# Altium schematic symbol library 13-Regulators 调整.SchLib: 234 symbols (part 1 of 2)
Pins are listed as number, name and electrical type; pins without a type are passive.

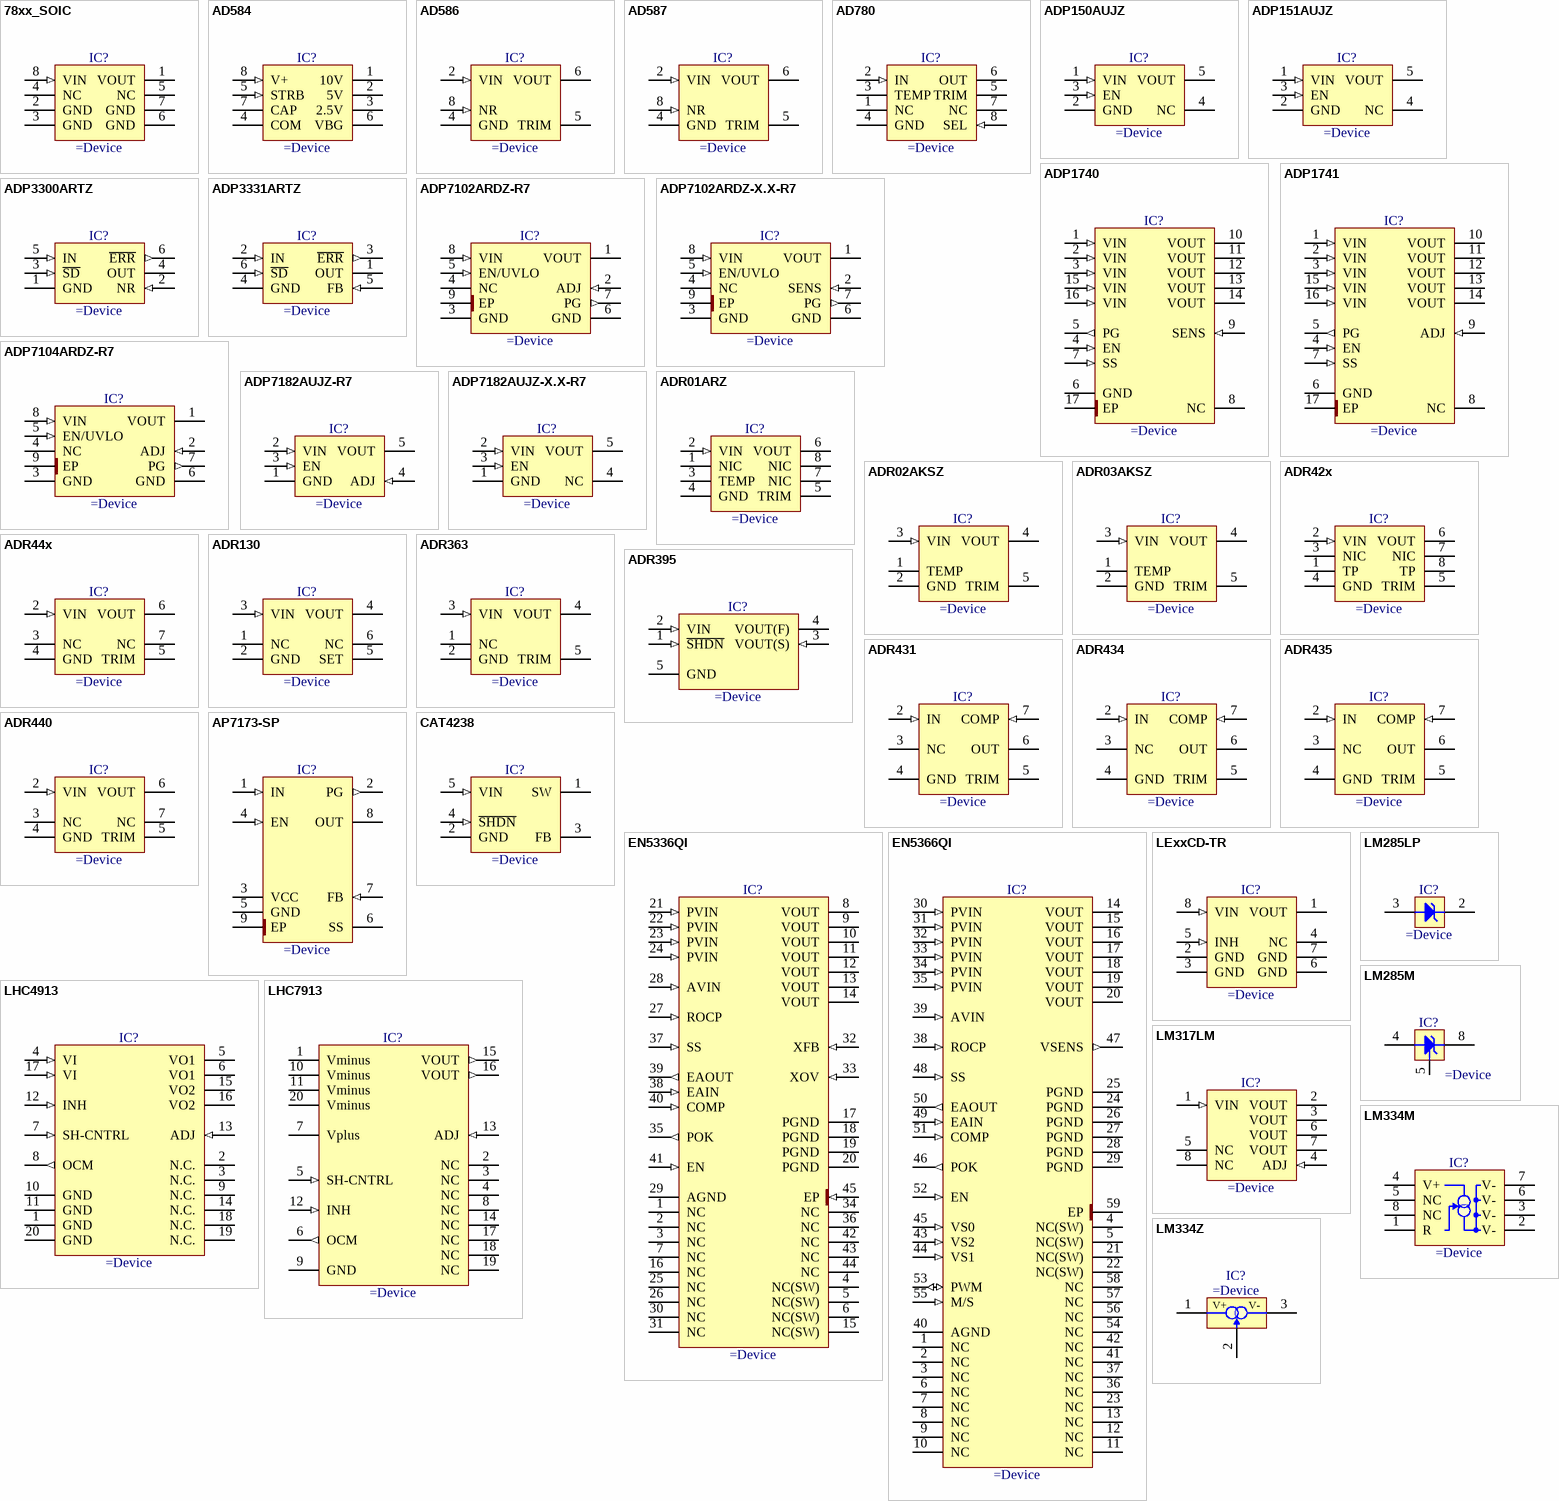
[diagram p0: symbols 78xx_SOIC to LM334Z]

## 78xx_SOIC
designator IC?
100 mA Positive Voltage Regulators
pins: 1 VOUT (power), 2 GND (power), 3 GND (power), 4 NC, 5 NC, 6 GND (power), 7 GND (power), 8 VIN (in)

## AD584
designator IC?
Pin Programmable Precision Voltage Reference
pins: 1 10V (power), 2 5V (power), 3 2.5V (power), 4 COM (power), 5 STRB (in), 6 VBG (power), 7 CAP, 8 V+ (in)

## AD586
designator IC?
High Precision 5V Voltage Reference
pins: 2 VIN (in), 4 GND (power), 5 TRIM, 6 VOUT (power), 8 NR (in)

## AD587
designator IC?
High Precision 10V Voltage Reference
pins: 2 VIN (in), 4 GND (power), 5 TRIM, 6 VOUT (power), 8 NR (in)

## AD780
designator IC?
2.5V/3.0V High Precision Reference
pins: 1 NC, 2 IN (in), 3 TEMP, 4 GND (power), 5 TRIM, 6 OUT (power), 7 NC, 8 SEL (in)

## ADP150AUJZ
designator IC?
Ultralow Noise, 150 mA CMOS Linear Regulator
pins: 1 VIN (in), 2 GND (power), 3 EN (in), 4 NC, 5 VOUT (power)

## ADP151AUJZ
designator IC?
Ultralow Noise, 200 mA CMOS Linear Regulator
pins: 1 VIN (in), 2 GND (power), 3 EN (in), 4 NC, 5 VOUT (power)

## ADP1740
designator IC?
2A, Low-Dropout Linear Regulator
pins: 1 VIN (in), 2 VIN (in), 3 VIN (in), 4 EN (in), 5 PG (out), 6 GND (power), 7 SS (in), 8 NC, 9 SENS (in), 10 VOUT (power), 11 VOUT (power), 12 VOUT (power), 13 VOUT (power), 14 VOUT (power), 15 VIN (in), 16 VIN (in), 17 EP (power)

## ADP1741
designator IC?
2A, 0.75V to 3.0V Adjustable, Low-Dropout Linear Regulator
pins: 1 VIN (in), 2 VIN (in), 3 VIN (in), 4 EN (in), 5 PG (out), 6 GND (power), 7 SS (in), 8 NC, 9 ADJ (in), 10 VOUT (power), 11 VOUT (power), 12 VOUT (power), 13 VOUT (power), 14 VOUT (power), 15 VIN (in), 16 VIN (in), 17 EP (power)

## ADP3300ARTZ
designator IC?
High Accuracy anyCAP® 50 mA Low Dropout Linear Regulator
pins: 1 GND (power), 2 NR (in), 3 ~{SD} (in), 4 OUT (power), 5 IN (in), 6 ~{ERR} (out)

## ADP3331ARTZ
designator IC?
Adjustable Output Ultralow IQ, 200 mA, anyCAP® Low Dropout Regulator
pins: 1 OUT (power), 2 IN (in), 3 ~{ERR} (out), 4 GND (power), 5 FB (in), 6 ~{SD} (in)

## ADP7102ARDZ-R7
designator IC?
1.22V to 19V, 300mA, Low Noise, CMOS LDO Adjustable Linear Regulator
pins: 1 VOUT (power), 2 ADJ (in), 3 GND (power), 4 NC, 5 EN/UVLO (in), 6 GND (power), 7 PG (out), 8 VIN (in), 9 EP (power)

## ADP7102ARDZ-X.X-R7
designator IC?
300 mA, Low Noise, CMOS LDO Linear Regulator
pins: 1 VOUT (power), 2 SENS (in), 3 GND (power), 4 NC, 5 EN/UVLO (in), 6 GND (power), 7 PG (out), 8 VIN (in), 9 EP (power)

## ADP7104ARDZ-R7
designator IC?
20V, 500mA, Low Noise, CMOS LDO Linear Regulator
pins: 1 VOUT (power), 2 ADJ (in), 3 GND (power), 4 NC, 5 EN/UVLO (in), 6 GND (power), 7 PG (out), 8 VIN (in), 9 EP (power)

## ADP7182AUJZ-R7
designator IC?
-1.22V to -27V, -200mA, Adjustable, Low Noise, Negative Linear Regulator
pins: 1 GND (power), 2 VIN (in), 3 EN (in), 4 ADJ (in), 5 VOUT (power)

## ADP7182AUJZ-X.X-R7
designator IC?
–5V, 200 mA, Low Noise, Linear Regulator
pins: 1 GND (power), 2 VIN (in), 3 EN (in), 4 NC, 5 VOUT (power)

## ADR01ARZ
designator IC?
Ultracompact, Precision 10.0V Voltage References
pins: 1 NIC, 2 VIN (in), 3 TEMP, 4 GND (power), 5 TRIM, 6 VOUT (power), 7 NIC, 8 NIC

## ADR02AKSZ
designator IC?
Ultracompact, Precision 5.0V Voltage References
pins: 1 TEMP, 2 GND (power), 3 VIN (in), 4 VOUT (power), 5 TRIM

## ADR03AKSZ
designator IC?
Ultracompact, Precision 2.5V Voltage References
pins: 1 TEMP, 2 GND (power), 3 VIN (in), 4 VOUT (power), 5 TRIM

## ADR42x
designator IC?
Ultraprecision, Low Noise, 2.048 V/2.500 V/  3.00 V/5.00 V XFET Voltage References
pins: 1 TP, 2 VIN (in), 3 NIC, 4 GND (power), 5 TRIM, 6 VOUT (power), 7 NIC, 8 TP

## ADR44x
designator IC?
5V Ultralow Noise, LDO XFET Voltage References with Current Sink and Source
pins: 2 VIN (in), 3 NC, 4 GND (power), 5 TRIM, 6 VOUT (power), 7 NC

## ADR130
designator IC?
±25ppm/°C, Precision Series Sub-Band Gap Voltage Reference
pins: 1 NC, 2 GND (power), 3 VIN (in), 4 VOUT (power), 5 SET, 6 NC

## ADR363
designator IC?
3V, ±25ppm/°C, ±6mV Low Power, Low Noise Voltage References with Sink/Source Capability
pins: 1 NC, 2 GND (power), 3 VIN (in), 4 VOUT (power), 5 TRIM

## ADR395
designator IC?
5V Micropower, Low Noise Precision Voltage References with Shutdown
pins: 1 ~{SHDN} (in), 2 VIN (in), 3 VOUT(S) (in), 4 VOUT(F) (power), 5 GND (power)

## ADR431
designator IC?
2.5V ±0.12% 10ppm/°C Ultralow Noise XFET Voltage References with Current Sink and Source Capability
pins: 2 IN (in), 3 NC, 4 GND (power), 5 TRIM, 6 OUT (power), 7 COMP (in)

## ADR434
designator IC?
4.096V ±0.04% 3ppm/°C 4.096V Ultralow Noise XFET Voltage References with Current Sink and Source Capability
pins: 2 IN (in), 3 NC, 4 GND (power), 5 TRIM, 6 OUT (power), 7 COMP (in)

## ADR435
designator IC?
5V Ultralow Noise XFET Voltage References with Current Sink and Source Capability
pins: 2 IN (in), 3 NC, 4 GND (power), 5 TRIM, 6 OUT (power), 7 COMP (in)

## ADR440
designator IC?
2.048V Ultralow Noise, LDO XFET Voltage Reference with Current Sink and Source
pins: 2 VIN (in), 3 NC, 4 GND (power), 5 TRIM, 6 VOUT (power), 7 NC

## AP7173-SP
designator IC?
1.5A 0.8V to 3.3V Low-Dropout Linear Regulator with Programmable Soft-Start
pins: 1 IN (in), 2 PG (out), 3 VCC (power), 4 EN (in), 5 GND (power), 6 SS, 7 FB (in), 8 OUT (power), 9 EP (power)

## CAT4238
designator IC?
(Up to 5.5V) Input  to (0 to 38V) Output, 600mA, 1MHz DC-DC  Step-Up Converters (Ideal For Driving LEDs)
pins: 1 SW (power), 2 GND (power), 3 FB, 4 ~{SHDN} (in), 5 VIN (in)

## EN5336QI
designator IC?
3A Voltage Mode Synchronous Buck PWM DC-DC Converter with Integrated Inductor External Feedback Output Voltage Programming
pins: 1 NC, 2 NC, 3 NC, 4 NC(SW), 5 NC(SW), 6 NC(SW), 7 NC, 8 VOUT (power), 9 VOUT (power), 10 VOUT (power), 11 VOUT (power), 12 VOUT (power), 13 VOUT (power), 14 VOUT (power), 15 NC(SW), 16 NC, 17 PGND (power), 18 PGND (power), 19 PGND (power), 20 PGND (power), 21 PVIN (in), 22 PVIN (in), 23 PVIN (in), 24 PVIN (in), 25 NC, 26 NC, 27 ROCP (in), 28 AVIN (in), 29 AGND (power), 30 NC, 31 NC, 32 XFB (in), 33 XOV (in), 34 NC, 35 POK (out), 36 NC, 37 SS (in), 38 EAIN (in), 39 EAOUT (out), 40 COMP (in), 41 EN (in), 42 NC, 43 NC, 44 NC, 45 EP (in)

## EN5366QI
designator IC?
6A Voltage Mode Synchronous Buck PWM DC-DC Converter with Integrated Inductor 3-Pin VID Output Voltage Select
pins: 1 NC, 2 NC, 3 NC, 4 NC(SW), 5 NC(SW), 6 NC, 7 NC, 8 NC, 9 NC, 10 NC, 11 NC, 12 NC, 13 NC, 14 VOUT (power), 15 VOUT (power), 16 VOUT (power), 17 VOUT (power), 18 VOUT (power), 19 VOUT (power), 20 VOUT (power), 21 NC(SW), 22 NC(SW), 23 NC, 24 PGND (power), 25 PGND (power), 26 PGND (power), 27 PGND (power), 28 PGND (power), 29 PGND (power), 30 PVIN (in), 31 PVIN (in), 32 PVIN (in), 33 PVIN (in), 34 PVIN (in), 35 PVIN (in), 36 NC, 37 NC, 38 ROCP (in), 39 AVIN (in), 40 AGND (power), 41 NC, 42 NC, 43 VS2 (in), 44 VS1 (in), 45 VS0 (in), 46 POK (out), 47 VSENS (out), 48 SS (in), 49 EAIN (in), 50 EAOUT (out), 51 COMP (in), 52 EN (in), 53 PWM (io), 54 NC, 55 M/S (in), 56 NC, 57 NC, 58 NC, 59 EP (power)

## LExxCD-TR
designator IC?
Very Low Dropout Voltage Regulator with Inhibit Function
pins: 1 VOUT (power), 2 GND (power), 3 GND (power), 4 NC, 5 INH (in), 6 GND (power), 7 GND (power), 8 VIN (in)

## LHC4913
designator IC?
3A Positive Low Drop Adjustable Voltage Regulator With Inhibit Function
pins: 1 GND (power), 2 N.C., 3 N.C., 4 VI (in), 5 VO1 (power), 6 VO1 (power), 7 SH-CNTRL (in), 8 OCM (out), 9 N.C., 10 GND, 11 GND, 12 INH (in), 13 ADJ (in), 14 N.C., 15 VO2 (power), 16 VO2 (power), 17 VI (in), 18 N.C., 19 N.C., 20 GND (power)

## LHC7913
designator IC?
3A Negative Low Drop Adjustable Voltage Regulator With Inhibit Function
pins: 1 Vminus (power), 2 NC, 3 NC, 4 NC, 5 SH-CNTRL (in), 6 OCM (out), 7 Vplus (power), 8 NC, 9 GND (power), 10 Vminus (power), 11 Vminus (power), 12 INH (in), 13 ADJ (in), 14 NC, 15 VOUT (out), 16 VOUT (out), 17 NC, 18 NC, 19 NC, 20 Vminus (power)

## LM285LP
designator IC?
Micropower Voltage References
pins: 2 C, 3 A

## LM285M
designator IC?
1.24V to 5.30V Adjustable Micropower Voltage References
pins: 4 A, 5 Adj (power), 8 C

## LM317LM
designator IC?
1.2V to 37V, 100mA Adjustable Positive Regulator
pins: 1 VIN (in), 2 VOUT (power), 3 VOUT (power), 4 ADJ (in), 5 NC, 6 VOUT (power), 7 VOUT (power), 8 NC

## LM334M
designator IC?
Adjustable Current Sources
pins: 1 R, 2 V-, 3 V-, 4 V+, 5 NC, 6 V-, 7 V-, 8 NC

## LM334Z
designator IC?
Adjustable Current Sources
pins: 1 V+, 2 R, 3 V-

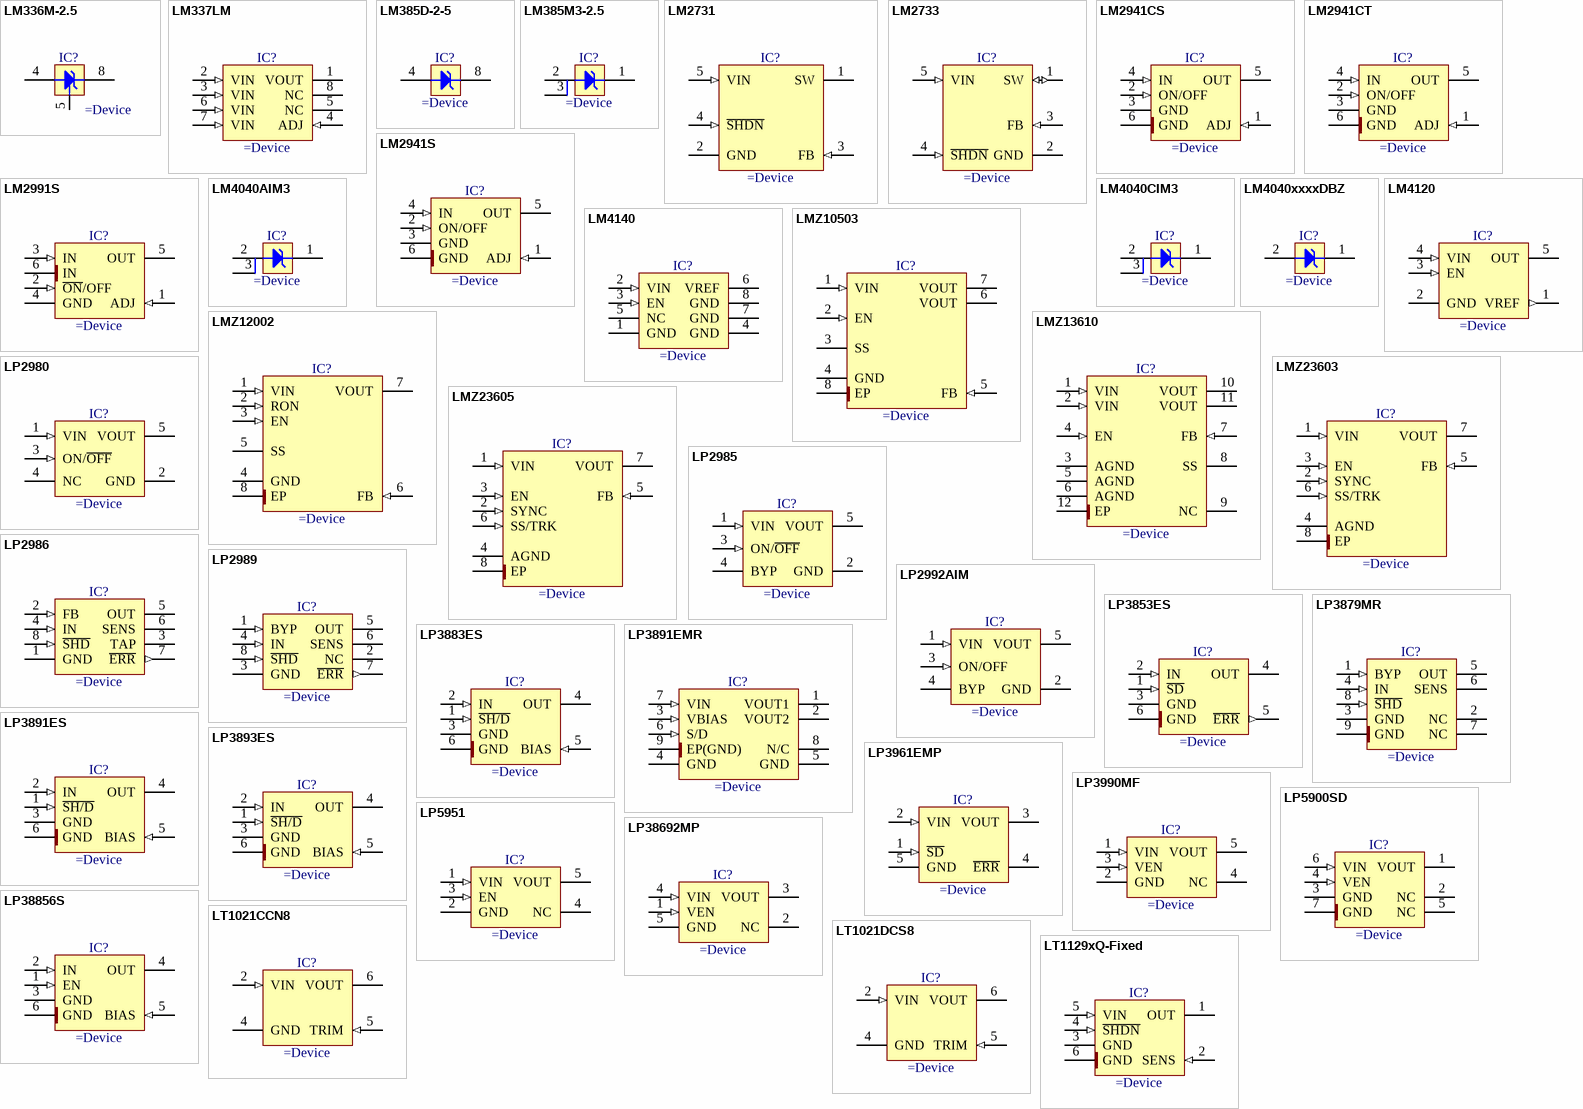
[diagram p1: symbols LM336M-2.5 to LT1129xQ-Fixed]

## LM336M-2.5
designator IC?
Reference Diode
pins: 4 A, 5 Adj, 8 C

## LM337LM
designator IC?
1.2V to 37V, 100mA Adjustable Negative Regulator
pins: 1 VOUT (power), 2 VIN (in), 3 VIN (in), 4 ADJ (in), 5 NC, 6 VIN (in), 7 VIN (in), 8 NC

## LM385D-2-5
designator IC?
Micropower Voltage References
pins: 4 A, 8 C

## LM385M3-2.5
designator IC?
Micropower Voltage Reference Diode
pins: 1 C, 2 A, 3 A

## LM2731
designator IC?
0.0.6MHz Boost Converters With 22V Internal FET Switch
pins: 1 SW (oc), 2 GND (power), 3 FB (in), 4 ~{SHDN} (in), 5 VIN (in)

## LM2733
designator IC?
0.6/1.6 MHz Boost Converters With 40V Internal FET Switch in SOT-23
pins: 1 SW (io) "Drain of the internal FET switch.", 2 GND (power) "Analog and power ground.", 3 FB (in) "Feedback point that connects to external resistive divider.", 4 ~{SHDN} (in) "Shutdown control input. Connect to VIN if this feature is not used.", 5 VIN (in) "Analog and power input."

## LM2941CS
designator IC?
5V to 20V, 1A Low Dropout Adjustable Regulator
pins: 1 ADJ (in), 2 ON/OFF (in), 3 GND (power), 4 IN (in), 5 OUT (power), 6 GND (power)

## LM2941CT
designator IC?
5V to 20V, 1A Low Dropout Adjustable Regulator
pins: 1 ADJ (in), 2 ON/OFF (in), 3 GND (power), 4 IN (in), 5 OUT (power), 6 GND (power)

## LM2941S
designator IC?
5V to 20V, 1A Low Dropout Adjustable Regulator
pins: 1 ADJ (in), 2 ON/OFF (in), 3 GND (power), 4 IN (in), 5 OUT (power), 6 GND (power)

## LM2991S
designator IC?
-3V to -24V, 1A Negative Low Dropout Adjustable Regulator
pins: 1 ADJ (in), 2 ~{ON}/OFF (in), 3 IN (in), 4 GND (power), 5 OUT (power), 6 IN (power)

## LM4040AIM3
designator IC?
Precision Micropower Shunt Voltage Reference
pins: 1 C, 2 A, 3 A

## LM4040CIM3
designator IC?
Precision Micropower Shunt Voltage Reference
pins: 1 C, 2 A, 3 A

## LM4040xxxxDBZ
designator IC?
Precision Micropower Shunt Voltage Reference
pins: 1 C, 2 A

## LM4120
designator IC?
Precision Micropower Low Dropout Voltage Reference
pins: 1 VREF (out), 2 GND (power), 3 EN (in), 4 VIN (in), 5 OUT (power)

## LM4140
designator IC?
High Precision Low Noise Low Dropout Voltage Reference
pins: 1 GND (power), 2 VIN (in), 3 EN (in), 4 GND (power), 5 NC, 6 VREF (power), 7 GND (power), 8 GND (power)

## LMZ10503
designator IC?
3A SIMPLE SWITCHER® Power Module with 5.5V Maximum Input Voltage
pins: 1 VIN (in), 2 EN (in), 3 SS, 4 GND (power), 5 FB (in), 6 VOUT (power), 7 VOUT (power), 8 EP (power)

## LMZ12002
designator IC?
2A SIMPLE SWITCHER® Power Module with 20V Maximum Input Voltage
pins: 1 VIN (in), 2 RON (in), 3 EN (in), 4 GND (power), 5 SS, 6 FB (in), 7 VOUT (power), 8 EP (power)

## LMZ13610
designator IC?
10A SIMPLE SWITCHER® Power Module with 36V Maximum Input Voltage
pins: 1 VIN (in), 2 VIN (in), 3 AGND (power), 4 EN (in), 5 AGND (power), 6 AGND (power), 7 FB (in), 8 SS, 9 NC, 10 VOUT (power), 11 VOUT (power), 12 EP (power)

## LMZ23603
designator IC?
3A SIMPLE SWITCHER® Power Module with 37V Maximum Input Voltage
pins: 1 VIN (in), 2 SYNC (in), 3 EN (in), 4 AGND (power), 5 FB (in), 6 SS/TRK (in), 7 VOUT (power), 8 EP (power)

## LMZ23605
designator IC?
5A SIMPLE SWITCHER® Power Module with 37V Maximum Input Voltage
pins: 1 VIN (in), 2 SYNC (in), 3 EN (in), 4 AGND (power), 5 FB (in), 6 SS/TRK (in), 7 VOUT (power), 8 EP (power)

## LP2980
designator IC?
Micropower 50mA Ultra Low-Dropout Regulator
pins: 1 VIN (in), 2 GND (power), 3 ON/~{OFF} (in), 4 NC, 5 VOUT (power)

## LP2985
designator IC?
150mA Low-Noise Low-Dropout Regulator Whit Shutdown
pins: 1 VIN (in), 2 GND (power), 3 ON/~{OFF} (in), 4 BYP, 5 VOUT (power)

## LP2986
designator IC?
Micropower, 200 mA Ultra Low-Dropout Fixed or Adjustable Voltage Regulator
pins: 1 GND (power), 2 FB (in), 3 TAP, 4 IN (in), 5 OUT (power), 6 SENS, 7 ~{ERR} (out), 8 ~{SHD} (in)

## LP2989
designator IC?
Micropower/Low Noise, 500 mA Ultra Low-Dropout Regulator
pins: 1 BYP (in), 2 NC, 3 GND (power), 4 IN (in), 5 OUT (power), 6 SENS, 7 ~{ERR} (out), 8 ~{SHD} (in)

## LP2992AIM
designator IC?
Micropower 250 mA Low-Noise Ultra Low-Dropout Regulator in SOT-23
pins: 1 VIN (in), 2 GND (power), 3 ON/OFF (in), 4 BYP, 5 VOUT (power)

## LP3853ES
designator IC?
3A Fast-Response Ultra Low Dropout Linear Regulators
pins: 1 ~{SD} (in), 2 IN (in), 3 GND (power), 4 OUT (power), 5 ~{ERR} (out), 6 GND (power)

## LP3879MR
designator IC?
Micropower 800mA Low Noise "Ceramic Stable" Voltage Regulator for Low Voltage Applications
pins: 1 BYP (in), 2 NC, 3 GND (power), 4 IN (in), 5 OUT (power), 6 SENS, 7 NC, 8 ~{SHD} (in), 9 GND (power)

## LP3883ES
designator IC?
3A Fast-Response Ultra Low Dropout Linear Regulators
pins: 1 ~{SH/D} (in), 2 IN (in), 3 GND (power), 4 OUT (power), 5 BIAS (in), 6 GND (power)

## LP3891EMR
designator IC?
0.8A Fast-Response Ultra Low Dropout Linear Regulator
pins: 1 VOUT1 (power), 2 VOUT2 (power), 3 VBIAS (in), 4 GND (power), 5 GND (power), 6 S/D (in), 7 VIN (in), 8 N/C, 9 EP(GND) (power)

## LP3891ES
designator IC?
0.8A Fast-Response Ultra Low Dropout Linear Regulator
pins: 1 ~{SH/D} (in), 2 IN (in), 3 GND (power), 4 OUT (power), 5 BIAS (in), 6 GND (power)

## LP3893ES
designator IC?
3A Fast-Response Ultra Low Dropout Linear Regulators
pins: 1 ~{SH/D} (in), 2 IN (in), 3 GND (power), 4 OUT (power), 5 BIAS (in), 6 GND (power)

## LP3961EMP
designator IC?
800mA Fast Ultra Low Dropout Linear Regulators
pins: 1 ~{SD} (in), 2 VIN (in), 3 VOUT (power), 4 ~{ERR}, 5 GND (power)

## LP3990MF
designator IC?
1.8V, 150mA Linear Voltage Regulator For Digital Applications
pins: 1 VIN (in), 2 GND (power), 3 VEN (in), 4 NC, 5 VOUT (power)

## LP5900SD
designator IC?
Ultra Low Noise, 150 mA Linear Regulator for RF/Analog Circuits Requires No Bypass Capacitor
pins: 1 VOUT (power), 2 NC, 3 GND (power), 4 VEN (in), 5 NC, 6 VIN (in), 7 GND (power)

## LP5951
designator IC?
150mA Micropower Low-Dropout CMOS Voltage Regulator
pins: 1 VIN (in), 2 GND (power), 3 EN (in), 4 NC, 5 VOUT (power)

## LP38692MP
designator IC?
1A Low Dropout CMOS Linear Regulators Stable with Ceramic Output Capacitors
pins: 1 VEN (in), 2 NC, 3 VOUT (power), 4 VIN (in), 5 GND (power)

## LP38856S
designator IC?
3A Fast-Response High-Accuracy LDO Linear Regulator With Enable From The PowerWise® Family
pins: 1 EN (in), 2 IN (in), 3 GND (power), 4 OUT (power), 5 BIAS (in), 6 GND (power)

## LT1021CCN8
designator IC?
3ppm/°C, 5V Precision Reference
pins: 2 VIN (in), 4 GND (power), 5 TRIM (in), 6 VOUT (power)

## LT1021DCS8
designator IC?
3ppm/°C, 5V Precision Reference
pins: 2 VIN (in), 4 GND (power), 5 TRIM (in), 6 VOUT (power)

## LT1129xQ-Fixed
designator IC?
3.3V, 700mA Micropower Low Dropout Regulator with Shutdown
pins: 1 OUT (power), 2 SENS (in), 3 GND (power), 4 ~{SHDN} (in), 5 VIN (in), 6 GND (power)

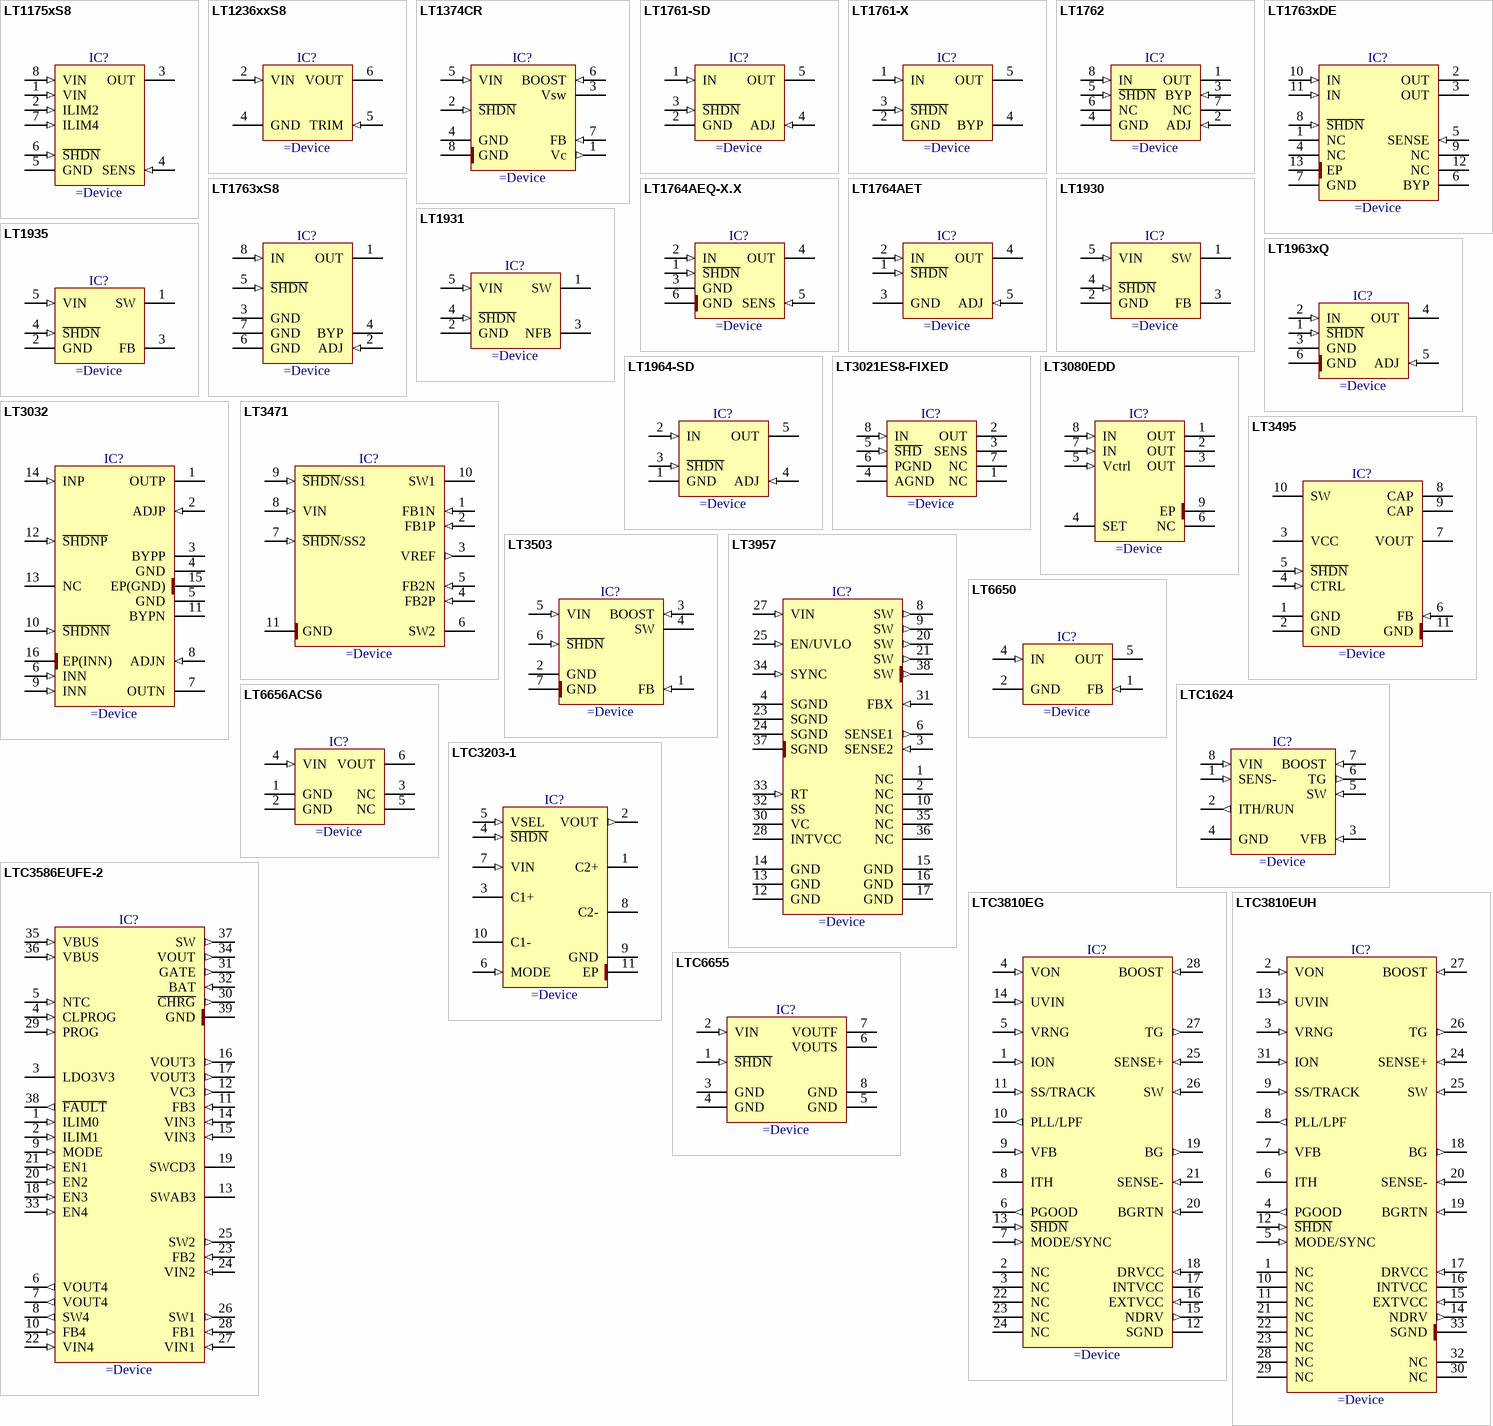
[diagram p2: symbols LT1175xS8 to LTC6655]

## LT1175xS8
designator IC?
5V 500mA Negative Low Dropout Micropower Regulator
pins: 1 VIN (in), 2 ILIM2 (in), 3 OUT (power), 4 SENS (in), 5 GND (power), 6 ~{SHDN} (in), 7 ILIM4 (in), 8 VIN (in)

## LT1236xxS8
designator IC?
5ppm/°C, Precision Reference
pins: 2 VIN (in), 4 GND (power), 5 TRIM (in), 6 VOUT (power)

## LT1374CR
designator IC?
4.5A 500kHz Step-Down Switching Regulator
pins: 1 Vc (out), 2 ~{SHDN} (in), 3 Vsw (power), 4 GND (power), 5 VIN (in), 6 BOOST (in), 7 FB (in), 8 GND (power)

## LT1761-SD
designator IC?
100mA, Low Noise, LDO Micropower Adjustable Regulator in SOT-23
pins: 1 IN (in), 2 GND (power), 3 ~{SHDN} (in), 4 ADJ (in), 5 OUT (power)

## LT1761-X
designator IC?
100mA, Low Noise, LDO Micropower Regulator in SOT-23
pins: 1 IN (in), 2 GND (power), 3 ~{SHDN} (in), 4 BYP, 5 OUT (power)

## LT1762
designator IC?
150mA, Low Noise, Adjustable LDO Micropower Regulator
pins: 1 OUT (power), 2 ADJ (in), 3 BYP (in), 4 GND (power), 5 ~{SHDN} (in), 6 NC, 7 NC, 8 IN (in)

## LT1763xDE
designator IC?
1.22V to 20V 500mA, Low Noise, LDO Adjustable Micropower Regulator
pins: 1 NC, 2 OUT (power), 3 OUT (power), 4 NC, 5 SENSE (in), 6 BYP, 7 GND (power), 8 ~{SHDN} (in), 9 NC, 10 IN (in), 11 IN (in), 12 NC, 13 EP (power)

## LT1763xS8
designator IC?
1.22V to 20V 500mA, Low Noise, LDO Adjustable Micropower Regulator
pins: 1 OUT (power), 2 ADJ (in), 3 GND (power), 4 BYP, 5 ~{SHDN} (in), 6 GND (power), 7 GND (power), 8 IN (in)

## LT1764AEQ-X.X
designator IC?
3A, Fast Transient Response, Low Noise, LDO Regulators
pins: 1 ~{SHDN} (in), 2 IN (in), 3 GND (power), 4 OUT (power), 5 SENS (in), 6 GND (power)

## LT1764AET
designator IC?
3A, Fast Transient Response, Low Noise, LDO Regulator
pins: 1 ~{SHDN} (in), 2 IN (in), 3 GND (power), 4 OUT (power), 5 ADJ (in)

## LT1930
designator IC?
1.2MHz/2.2MHz Step-Up DC/DC Converters in ThinSOT
pins: 1 SW (power), 2 GND (power), 3 FB, 4 ~{SHDN} (in), 5 VIN (in)

## LT1931
designator IC?
1.2MHz/2.2MHz Inverting DC/DC Converters in ThinSOT
pins: 1 SW (power), 2 GND (power), 3 NFB, 4 ~{SHDN} (in), 5 VIN (in)

## LT1935
designator IC?
1.2MHz Boost DC/DC Converter in ThinSOT with 2A Switch
pins: 1 SW (power), 2 GND (power), 3 FB, 4 ~{SHDN} (in), 5 VIN (in)

## LT1963xQ
designator IC?
1.5A, Fast Transient Response Adjustable LDO Regulators
pins: 1 ~{SHDN} (in), 2 IN (in), 3 GND (power), 4 OUT (power), 5 ADJ (in), 6 GND (power)

## LT1964-SD
designator IC?
200mA, Low Noise, Low Dropout Negative Micropower Regulator
pins: 1 GND (power), 2 IN (in), 3 ~{SHDN} (in), 4 ADJ (in), 5 OUT (power)

## LT3021ES8-FIXED
designator IC?
500mA, Low Voltage, Very Low Dropout Linear Regulator
pins: 1 NC, 2 OUT (power), 3 SENS, 4 AGND (power), 5 ~{SHD} (in), 6 PGND (power), 7 NC, 8 IN (in)

## LT3032
designator IC?
Dual 150mA Positive/Negative Low Noise Low Dropout Linear Regulator
pins: 1 OUTP (power), 2 ADJP (in), 3 BYPP, 4 GND (power), 5 GND (power), 6 INN (in), 7 OUTN (power), 8 ADJN (in), 9 INN (in), 10 ~{SHDNN} (in), 11 BYPN, 12 ~{SHDNP} (in), 13 NC, 14 INP (in), 15 EP(GND) (power), 16 EP(INN) (power)

## LT3080EDD
designator IC?
Adjustable 1.1A Single Resistor Low Dropout Regulator
pins: 1 OUT (power), 2 OUT (power), 3 OUT (power), 4 SET, 5 Vctrl (in), 6 NC, 7 IN (in), 8 IN (in), 9 EP (power)

## LT3471
designator IC?
1.3A, 1.2MHz , Dual Switching Regulator
pins: 1 FB1N (in), 2 FB1P (in), 3 VREF (out), 4 FB2P (in), 5 FB2N (in), 6 SW2 (oc), 7 ~{SHDN}/SS2 (in), 8 VIN (in), 9 ~{SHDN}/SS1 (in), 10 SW1 (oc), 11 GND (power)

## LT3495
designator IC?
Micropower Low Noise Boost Converter with Output Disconnect
pins: 1 GND (power), 2 GND (power), 3 VCC (power), 4 CTRL (in), 5 ~{SHDN} (in), 6 FB (in), 7 VOUT (power), 8 CAP, 9 CAP, 10 SW (oc), 11 GND (power)

## LT3503
designator IC?
1A, 2.2MHz Step-Down Switching Regulator
pins: 1 FB (in), 2 GND (power), 3 BOOST (in), 4 SW (power), 5 VIN (in), 6 ~{SHDN} (in), 7 GND (power)

## LT3957
designator IC?
Boost, Flyback, SEPIC and Inverting Converter with 5A, 40V Switch
pins: 1 NC, 2 NC, 3 SENSE2 (in), 4 SGND (power), 6 SENSE1 (out), 8 SW (out), 9 SW (out), 10 NC, 12 GND (power), 13 GND (power), 14 GND (power), 15 GND (power), 16 GND (power), 17 GND (power), 20 SW (out), 21 SW (out), 23 SGND (power), 24 SGND (power), 25 EN/UVLO (in), 27 VIN (in), 28 INTVCC, 30 VC, 31 FBX (in), 32 SS, 33 RT (in), 34 SYNC (in), 35 NC, 36 NC, 37 SGND (power), 38 SW (out)

## LT6650
designator IC?
Micropower, 400mV Reference with Rail-to-Rail Buffer Amplifier
pins: 1 FB (in), 2 GND (power), 4 IN (in), 5 OUT (power)

## LT6656ACS6
designator IC?
1uA Precision Voltage Reference
pins: 1 GND (power), 2 GND (power), 3 NC, 4 VIN (in), 5 NC, 6 VOUT (power)

## LTC1624
designator IC?
High Efficiency SO-8 N-Channel Switching Regulator Controller
pins: 1 SENS- (in), 2 ITH/RUN (out), 3 VFB (in), 4 GND (power), 5 SW (in), 6 TG (out), 7 BOOST (in), 8 VIN (in)

## LTC3203-1
designator IC?
500mA Output Current Low Noise Dual Mode Step-Up Charge Pumps
pins: 1 C2+, 2 VOUT (out), 3 C1+, 4 ~{SHDN} (in), 5 VSEL (in), 6 MODE (in), 7 VIN (in), 8 C2-, 9 GND (power), 10 C1-, 11 EP (power)

## LTC3586EUFE-2
designator IC?
High Efficiency USB Power Manager with Boost, Buck-Boost and Dual Bucks
pins: 1 ILIM0 (in), 2 ILIM1 (in), 3 LDO3V3 (power), 4 CLPROG (in), 5 NTC (in), 6 VOUT4 (out), 7 VOUT4 (out), 8 SW4 (out), 9 MODE (in), 10 FB4 (in), 11 FB3 (in), 12 VC3 (out), 13 SWAB3, 14 VIN3 (in), 15 VIN3 (in), 16 VOUT3 (out), 17 VOUT3 (out), 18 EN3 (in), 19 SWCD3, 20 EN2 (in), 21 EN1 (in), 22 VIN4 (in), 23 FB2 (in), 24 VIN2 (in), 25 SW2 (out), 26 SW1 (out), 27 VIN1 (in), 28 FB1 (in), 29 PROG (in), 30 ~{CHRG} (out), 31 GATE (out), 32 BAT (in), 33 EN4 (in), 34 VOUT (out), 35 VBUS (in), 36 VBUS (in), 37 SW (out), 38 ~{FAULT} (out), 39 GND (power)

## LTC3810EG
designator IC?
Current Mode Synchronous Switching Regulator Controller
pins: 1 ION (in), 2 NC, 3 NC, 4 VON (in), 5 VRNG (in), 6 PGOOD (out), 7 MODE/SYNC (in), 8 ITH, 9 VFB (in), 10 PLL/LPF (out), 11 SS/TRACK (in), 12 SGND (power), 13 ~{SHDN} (in), 14 UVIN (in), 15 NDRV (out), 16 EXTVCC (in), 17 INTVCC (power), 18 DRVCC (in), 19 BG (out), 20 BGRTN (in), 21 SENSE- (in), 22 NC, 23 NC, 24 NC, 25 SENSE+ (in), 26 SW (in), 27 TG (out), 28 BOOST (in)

## LTC3810EUH
designator IC?
Current Mode Synchronous Switching Regulator Controller
pins: 1 NC, 2 VON (in), 3 VRNG (in), 4 PGOOD (out), 5 MODE/SYNC (in), 6 ITH, 7 VFB (in), 8 PLL/LPF (out), 9 SS/TRACK (in), 10 NC, 11 NC, 12 ~{SHDN} (in), 13 UVIN (in), 14 NDRV (out), 15 EXTVCC (in), 16 INTVCC (power), 17 DRVCC (in), 18 BG (out), 19 BGRTN (in), 20 SENSE- (in), 21 NC, 22 NC, 23 NC, 24 SENSE+ (in), 25 SW (in), 26 TG (out), 27 BOOST (in), 28 NC, 29 NC, 30 NC, 31 ION (in), 32 NC, 33 SGND (power)

## LTC6655
designator IC?
0.25ppm Noise, Low Drift Precision Buffered Voltage Reference
pins: 1 ~{SHDN} (in), 2 VIN (in), 3 GND (power), 4 GND (power), 5 GND (power), 6 VOUTS (power), 7 VOUTF (power), 8 GND (power)

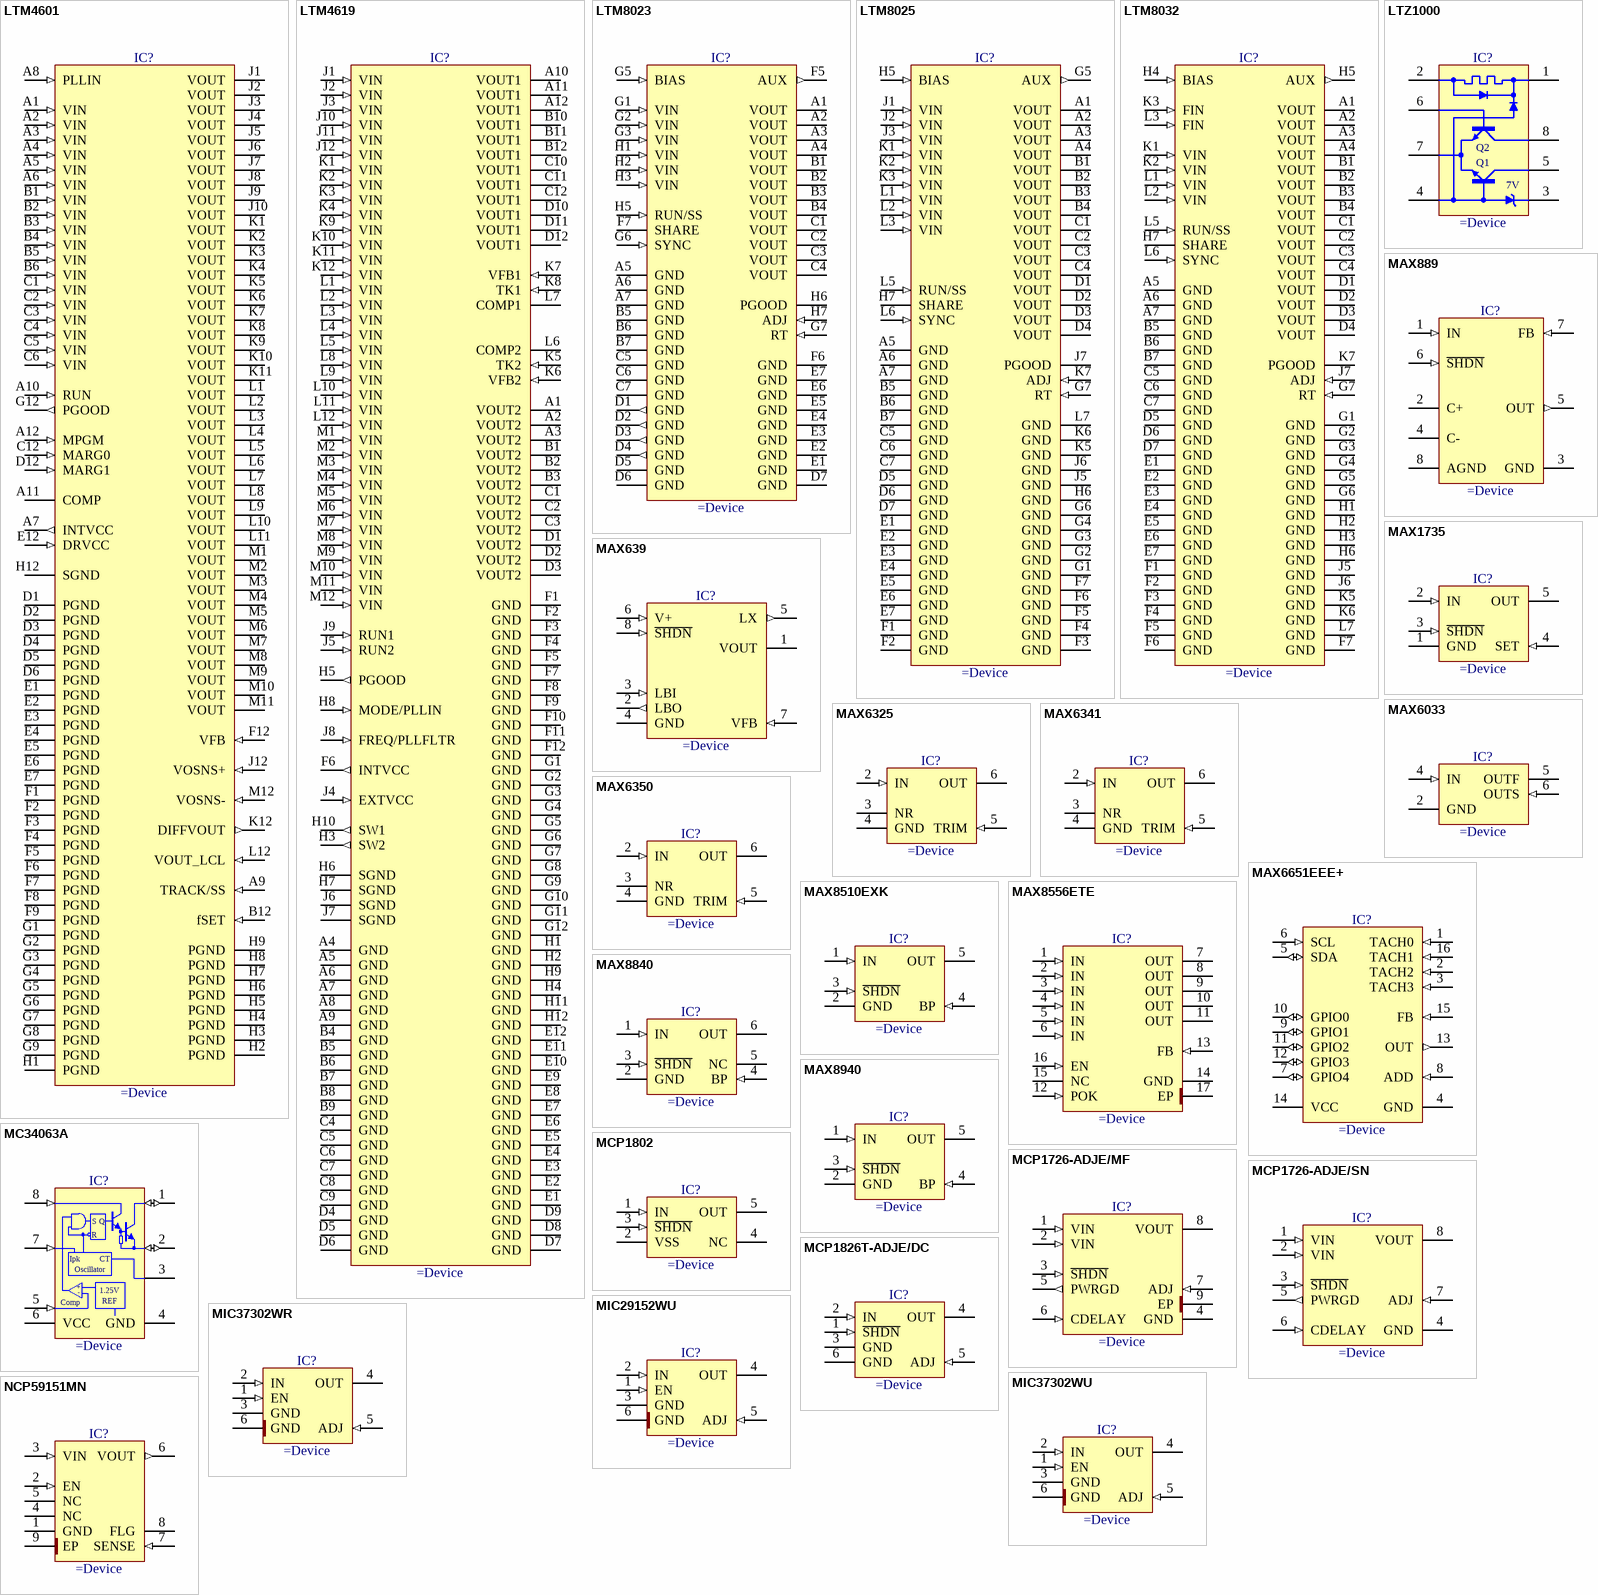
[diagram p3: symbols LTM4601 to NCP59151MN]

## LTM4601
designator IC?
4.5V-20V To 0.6V-5V, Iout 12A DC/DC uModule With PLL, Output Tracking And Margining
pins: A1 VIN (in), A2 VIN (in), A3 VIN (in), A4 VIN (in), A5 VIN (in), A6 VIN (in), A7 INTVCC (out), A8 PLLIN (in), A9 TRACK/SS (in), A10 RUN (in), A11 COMP, A12 MPGM (in), B1 VIN (in), B2 VIN (in), B3 VIN (in), B4 VIN (in), B5 VIN (in), B6 VIN (in), B12 fSET (in), C1 VIN (in), C2 VIN (in), C3 VIN (in), C4 VIN (in), C5 VIN (in), C6 VIN (in), C12 MARG0 (in), D1 PGND (power), D2 PGND (power), D3 PGND (power), D4 PGND (power), D5 PGND (power), D6 PGND (power), D12 MARG1 (in), E1 PGND (power), E2 PGND (power), E3 PGND (power), E4 PGND (power), E5 PGND (power), E6 PGND (power), E7 PGND (power), E12 DRVCC (in), F1 PGND (power), F2 PGND (power), F3 PGND (power), F4 PGND (power), F5 PGND (power), F6 PGND (power), F7 PGND (power), F8 PGND (power), F9 PGND (power), F12 VFB (in), G1 PGND (power), G2 PGND (power), G3 PGND (power), G4 PGND (power), G5 PGND (power), G6 PGND (power), G7 PGND (power), G8 PGND (power), G9 PGND (power), G12 PGOOD (out), H1 PGND (power), H2 PGND (power), H3 PGND (power), H4 PGND (power), H5 PGND (power), H6 PGND (power), H7 PGND (power), H8 PGND (power), H9 PGND (power), H12 SGND (power), J1 VOUT (power), J2 VOUT (power), J3 VOUT (power), J4 VOUT (power), J5 VOUT (power), J6 VOUT (power), J7 VOUT (power), J8 VOUT (power), J9 VOUT (power), J10 VOUT (power), J12 VOSNS+ (in), K1 VOUT (power), K2 VOUT (power), K3 VOUT (power), K4 VOUT (power), K5 VOUT (power), K6 VOUT (power), K7 VOUT (power), K8 VOUT (power), K9 VOUT (power), K10 VOUT (power), K11 VOUT (power), K12 DIFFVOUT (out), L1 VOUT (power), L2 VOUT (power), L3 VOUT (power), L4 VOUT (power), L5 VOUT (power), L6 VOUT (power), L7 VOUT (power), L8 VOUT (power), L9 VOUT (power), L10 VOUT (power), L11 VOUT (power), L12 VOUT_LCL (in), M1 VOUT (power), M2 VOUT (power), M3 VOUT (power), M4 VOUT (power), M5 VOUT (power), M6 VOUT (power), M7 VOUT (power), M8 VOUT (power), M9 VOUT (power), M10 VOUT (power), M11 VOUT (power), M12 VOSNS- (in)

## LTM4619
designator IC?
4.5V-26.5V To 0.8V-5V, Iout 4A Dual DC/DC uModule Regulator
pins: A1 VOUT2 (power), A2 VOUT2 (power), A3 VOUT2 (power), A4 GND (power), A5 GND (power), A6 GND (power), A7 GND (power), A8 GND (power), A9 GND (power), A10 VOUT1 (power), A11 VOUT1 (power), A12 VOUT1 (power), B1 VOUT2 (power), B2 VOUT2 (power), B3 VOUT2 (power), B4 GND (power), B5 GND (power), B6 GND (power), B7 GND (power), B8 GND (power), B9 GND (power), B10 VOUT1 (power), B11 VOUT1 (power), B12 VOUT1 (power), C1 VOUT2 (power), C2 VOUT2 (power), C3 VOUT2 (power), C4 GND (power), C5 GND (power), C6 GND (power), C7 GND (power), C8 GND (power), C9 GND (power), C10 VOUT1 (power), C11 VOUT1 (power), C12 VOUT1 (power), D1 VOUT2 (power), D2 VOUT2 (power), D3 VOUT2 (power), D4 GND (power), D5 GND (power), D6 GND (power), D7 GND (power), D8 GND (power), D9 GND (power), D10 VOUT1 (power), D11 VOUT1 (power), D12 VOUT1 (power), E1 GND (power), E2 GND (power), E3 GND (power), E4 GND (power), E5 GND (power), E6 GND (power), E7 GND (power), E8 GND (power), E9 GND (power), E10 GND (power), E11 GND (power), E12 GND (power), F1 GND (power), F2 GND (power), F3 GND (power), F4 GND (power), F5 GND (power), F6 INTVCC (out), F7 GND (power), F8 GND (power), F9 GND (power), F10 GND (power), F11 GND (power), F12 GND (power), G1 GND (power), G2 GND (power), G3 GND (power), G4 GND (power), G5 GND (power), G6 GND (power), G7 GND (power), G8 GND (power), G9 GND (power), G10 GND (power), G11 GND (power), G12 GND (power), H1 GND (power), H2 GND (power), H3 SW2 (out), H4 GND (power), H5 PGOOD (out), H6 SGND (power), H7 SGND (power), H8 MODE/PLLIN (in), H9 GND (power), H10 SW1 (out), H11 GND (power), H12 GND (power), J1 VIN (in), J2 VIN (in), J3 VIN (in), J4 EXTVCC (in), J5 RUN2 (in), J6 SGND (power), J7 SGND (power), J8 FREQ/PLLFLTR (in), J9 RUN1 (in), J10 VIN (in), J11 VIN (in), J12 VIN (in), K1 VIN (in), K2 VIN (in), K3 VIN (in), K4 VIN (in), K5 TK2 (in), K6 VFB2 (in), K7 VFB1 (in), K8 TK1 (in), K9 VIN (in), K10 VIN (in), K11 VIN (in), K12 VIN (in), L1 VIN (in), L2 VIN (in), L3 VIN (in), L4 VIN (in), L5 VIN (in), L6 COMP2, L7 COMP1, L8 VIN (in), L9 VIN (in), L10 VIN (in), L11 VIN (in), L12 VIN (in), M1 VIN (in), M2 VIN (in), M3 VIN (in), M4 VIN (in), M5 VIN (in), M6 VIN (in), M7 VIN (in), M8 VIN (in), M9 VIN (in), M10 VIN (in), M11 VIN (in), M12 VIN (in)

## LTM8023
designator IC?
3.6V-36V To 0.8V-10V, Iout 2A DC/DC uModule
pins: A1 VOUT (power), A2 VOUT (power), A3 VOUT (power), A4 VOUT (power), A5 GND (power), A6 GND (power), A7 GND (power), B1 VOUT (power), B2 VOUT (power), B3 VOUT (power), B4 VOUT (power), B5 GND (power), B6 GND (power), B7 GND (power), C1 VOUT (power), C2 VOUT (power), C3 VOUT (power), C4 VOUT (power), C5 GND (power), C6 GND (power), C7 GND (power), D1 GND (out), D2 GND (out), D3 GND (out), D4 GND (out), D5 GND (power), D6 GND (power), D7 GND (power), E1 GND (power), E2 GND (power), E3 GND (power), E4 GND (power), E5 GND (power), E6 GND (power), E7 GND (power), F5 AUX (out), F6 GND (power), F7 SHARE, G1 VIN (in), G2 VIN (in), G3 VIN (in), G5 BIAS (in), G6 SYNC (in), G7 RT (in), H1 VIN (in), H2 VIN (in), H3 VIN (in), H5 RUN/SS (in), H6 PGOOD (oc), H7 ADJ (in)

## LTM8025
designator IC?
3.6V-36V To 0.8V-24V, Iout 3A Step Down uModule® Converter
pins: A1 VOUT (power), A2 VOUT (power), A3 VOUT (power), A4 VOUT (power), A5 GND (power), A6 GND (power), A7 GND (power), B1 VOUT (power), B2 VOUT (power), B3 VOUT (power), B4 VOUT (power), B5 GND (power), B6 GND (power), B7 GND (power), C1 VOUT (power), C2 VOUT (power), C3 VOUT (power), C4 VOUT (power), C5 GND (power), C6 GND (power), C7 GND (power), D1 VOUT (power), D2 VOUT (power), D3 VOUT (power), D4 VOUT (power), D5 GND (power), D6 GND (power), D7 GND (power), E1 GND (power), E2 GND (power), E3 GND (power), E4 GND (power), E5 GND (power), E6 GND (power), E7 GND (power), F1 GND (power), F2 GND (power), F3 GND (power), F4 GND (power), F5 GND (power), F6 GND (power), F7 GND (power), G1 GND (power), G2 GND (power), G3 GND (power), G4 GND (power), G5 AUX (out), G6 GND (power), G7 RT (in), H5 BIAS (in), H6 GND (power), H7 SHARE, J1 VIN (in), J2 VIN (in), J3 VIN (in), J5 GND (power), J6 GND (power), J7 PGOOD (oc), K1 VIN (in), K2 VIN (in), K3 VIN (in), K5 GND (power), K6 GND (power), K7 ADJ (in), L1 VIN (in), L2 VIN (in), L3 VIN (in), L5 RUN/SS (in), L6 SYNC (in), L7 GND (power)

## LTM8032
designator IC?
3V-36V To 0.8V-10V, Iout 2A Ultralow Noise EMC Compliant DC/DC uModule
pins: A1 VOUT (power), A2 VOUT (power), A3 VOUT (power), A4 VOUT (power), A5 GND (power), A6 GND (power), A7 GND (power), B1 VOUT (power), B2 VOUT (power), B3 VOUT (power), B4 VOUT (power), B5 GND (power), B6 GND (power), B7 GND (power), C1 VOUT (power), C2 VOUT (power), C3 VOUT (power), C4 VOUT (power), C5 GND (power), C6 GND (power), C7 GND (power), D1 VOUT (power), D2 VOUT (power), D3 VOUT (power), D4 VOUT (power), D5 GND (power), D6 GND (power), D7 GND (power), E1 GND (power), E2 GND (power), E3 GND (power), E4 GND (power), E5 GND (power), E6 GND (power), E7 GND (power), F1 GND (power), F2 GND (power), F3 GND (power), F4 GND (power), F5 GND (power), F6 GND (power), F7 GND (power), G1 GND (power), G2 GND (power), G3 GND (power), G4 GND (power), G5 GND (power), G6 GND (power), G7 RT (in), H1 GND (power), H2 GND (power), H3 GND (power), H4 BIAS (in), H5 AUX (out), H6 GND (power), H7 SHARE, J5 GND (power), J6 GND (power), J7 ADJ (in), K1 VIN (in), K2 VIN (in), K3 FIN (in), K5 GND (power), K6 GND (power), K7 PGOOD (oc), L1 VIN (in), L2 VIN (in), L3 FIN (in), L5 RUN/SS (in), L6 SYNC (in), L7 GND (power)

## LTZ1000
designator IC?
7V Ultra Precision Reference
pins: 1, 2, 3, 4, 5 (oc), 6, 7 (oe), 8 (oc)
text: Q2; Q1; 7V

## MAX639
designator IC?
4V-11.5V To 5V, Iout 225mA, High-Efficiency, Low Iq, Step-Down DC-DC Converter
pins: 1 VOUT (power), 2 LBO (out), 3 LBI (in), 4 GND (power), 5 LX (out), 6 V+ (in), 7 VFB (in), 8 ~{SHDN} (in)

## MAX889
designator IC?
High-Frequency, Regulated, 200mA, Inverting Charge Pump
pins: 1 IN (in), 2 C+, 3 GND (power), 4 C-, 5 OUT (out), 6 ~{SHDN} (in), 7 FB (in), 8 AGND (power)

## MAX1735
designator IC?
200mA, Negative-Output, Low-Dropout Linear Regulator
pins: 1 GND (power), 2 IN (in), 3 ~{SHDN} (in), 4 SET (in), 5 OUT (power)

## MAX6033
designator IC?
Ultra-High-Precision Voltage References
pins: 2 GND (power), 4 IN (in), 5 OUTF (power), 6 OUTS (in)

## MAX6325
designator IC?
1ppm/°C, Low-Noise, +2.500V Voltage References
pins: 2 IN (in), 3 NR, 4 GND (power), 5 TRIM (in), 6 OUT (power)

## MAX6341
designator IC?
1ppm/°C, Low-Noise, +4.096V Voltage References
pins: 2 IN (in), 3 NR, 4 GND (power), 5 TRIM (in), 6 OUT (power)

## MAX6350
designator IC?
1ppm/°C, Low-Noise, +5.000V Voltage References
pins: 2 IN (in), 3 NR, 4 GND (power), 5 TRIM (in), 6 OUT (power)

## MAX6651EEE+
designator IC?
Fan-Speed Regulators and Monitors with SMBus/I²C-Compatible Interface
pins: 1 TACH0 (in), 2 TACH2 (in), 3 TACH3 (in), 4 GND (power), 5 SDA (io), 6 SCL (in), 7 GPIO4 (io), 8 ADD (in), 9 GPIO1 (io), 10 GPIO0 (io), 11 GPIO2 (io), 12 GPIO3 (io), 13 OUT (out), 14 VCC (power), 15 FB (in), 16 TACH1 (in)

## MAX8510EXK
designator IC?
Ultra-Low-Noise, High PSRR, Low-Dropout, 120mA Linear Regulator
pins: 1 IN (in), 2 GND (power), 3 ~{SHDN} (in), 4 BP (in), 5 OUT (power)

## MAX8556ETE
designator IC?
4A Ultra-Low-Input-Voltage LDO Regulator
pins: 1 IN (in), 2 IN (in), 3 IN (in), 4 IN (in), 5 IN (in), 6 IN (in), 7 OUT (power), 8 OUT (power), 9 OUT (power), 10 OUT (power), 11 OUT (power), 12 POK (in), 13 FB (in), 14 GND (power), 15 NC, 16 EN (in), 17 EP (power)

## MAX8840
designator IC?
Low-Noise, High PSRR, Low-Dropout, 120mA Linear Regulator
pins: 1 IN (in), 2 GND (power), 3 ~{SHDN} (in), 4 BP (in), 5 NC, 6 OUT (power)

## MAX8940
designator IC?
Low-Noise, High PSRR, Low-Dropout, 120mA Linear Regulator
pins: 1 IN (in), 2 GND (power), 3 ~{SHDN} (in), 4 BP (in), 5 OUT (power)

## MC34063A
designator IC?
3V to 40V 1.5A Peak Boost/Buck/Inverting Switching Regulator
pins: 1 SWC (io), 2 SWE (io), 3 TC, 4 GND (power), 5 COMP (in), 6 VCC (power), 7 Ipk (in), 8 DRVC (in)
text: S; Q; R; CT; Oscillator; +; -; 1.25V; Comp; REF

## MCP1726-ADJE/MF
designator IC?
1A, 0.8V to 5.0V Adjustable , Low Quiescent Current LDO Regulator
pins: 1 VIN (in), 2 VIN (in), 3 ~{SHDN} (in), 4 GND (power), 5 PWRGD (out), 6 CDELAY (in), 7 ADJ (in), 8 VOUT (power), 9 EP (power)

## MCP1726-ADJE/SN
designator IC?
1A, 0.8V to 5.0V Adjustable , Low Quiescent Current LDO Regulator
pins: 1 VIN (in), 2 VIN (in), 3 ~{SHDN} (in), 4 GND (power), 5 PWRGD (out), 6 CDELAY (in), 7 ADJ (in), 8 VOUT (power)

## MCP1802
designator IC?
300mA, High PSRR, Low Quiescent Current LDO
pins: 1 IN (in), 2 VSS (power), 3 ~{SHDN} (in), 4 NC, 5 OUT (power)

## MCP1826T-ADJE/DC
designator IC?
0.8V to 5.0V, 1A Low Voltage, Low Quiescent Current, Adjustable Positive LDO Regulator
pins: 1 ~{SHDN} (in), 2 IN (in), 3 GND (power), 4 OUT (power), 5 ADJ (in), 6 GND (power)

## MIC29152WU
designator IC?
1.25V to 26V, 1.5A Low Dropout Adjustable Regulator
pins: 1 EN (in), 2 IN (in), 3 GND (power), 4 OUT (power), 5 ADJ (in), 6 GND (power)

## MIC37302WR
designator IC?
3.0A Low Voltage µCap LDO Regulator
pins: 1 EN (in), 2 IN (in), 3 GND (power), 4 OUT (power), 5 ADJ (in), 6 GND (power)

## MIC37302WU
designator IC?
3.0A Low Voltage µCap LDO Regulator
pins: 1 EN (in), 2 IN (in), 3 GND (power), 4 OUT (power), 5 ADJ (in), 6 GND (power)

## NCP59151MN
designator IC?
1.5 A, Very Low-Dropout (VLDO) Fast Transient Response Regulator
pins: 1 GND (power), 2 EN (in), 3 VIN (in), 4 NC, 5 NC, 6 VOUT (out), 7 SENSE (in), 8 FLG (oc), 9 EP (power)

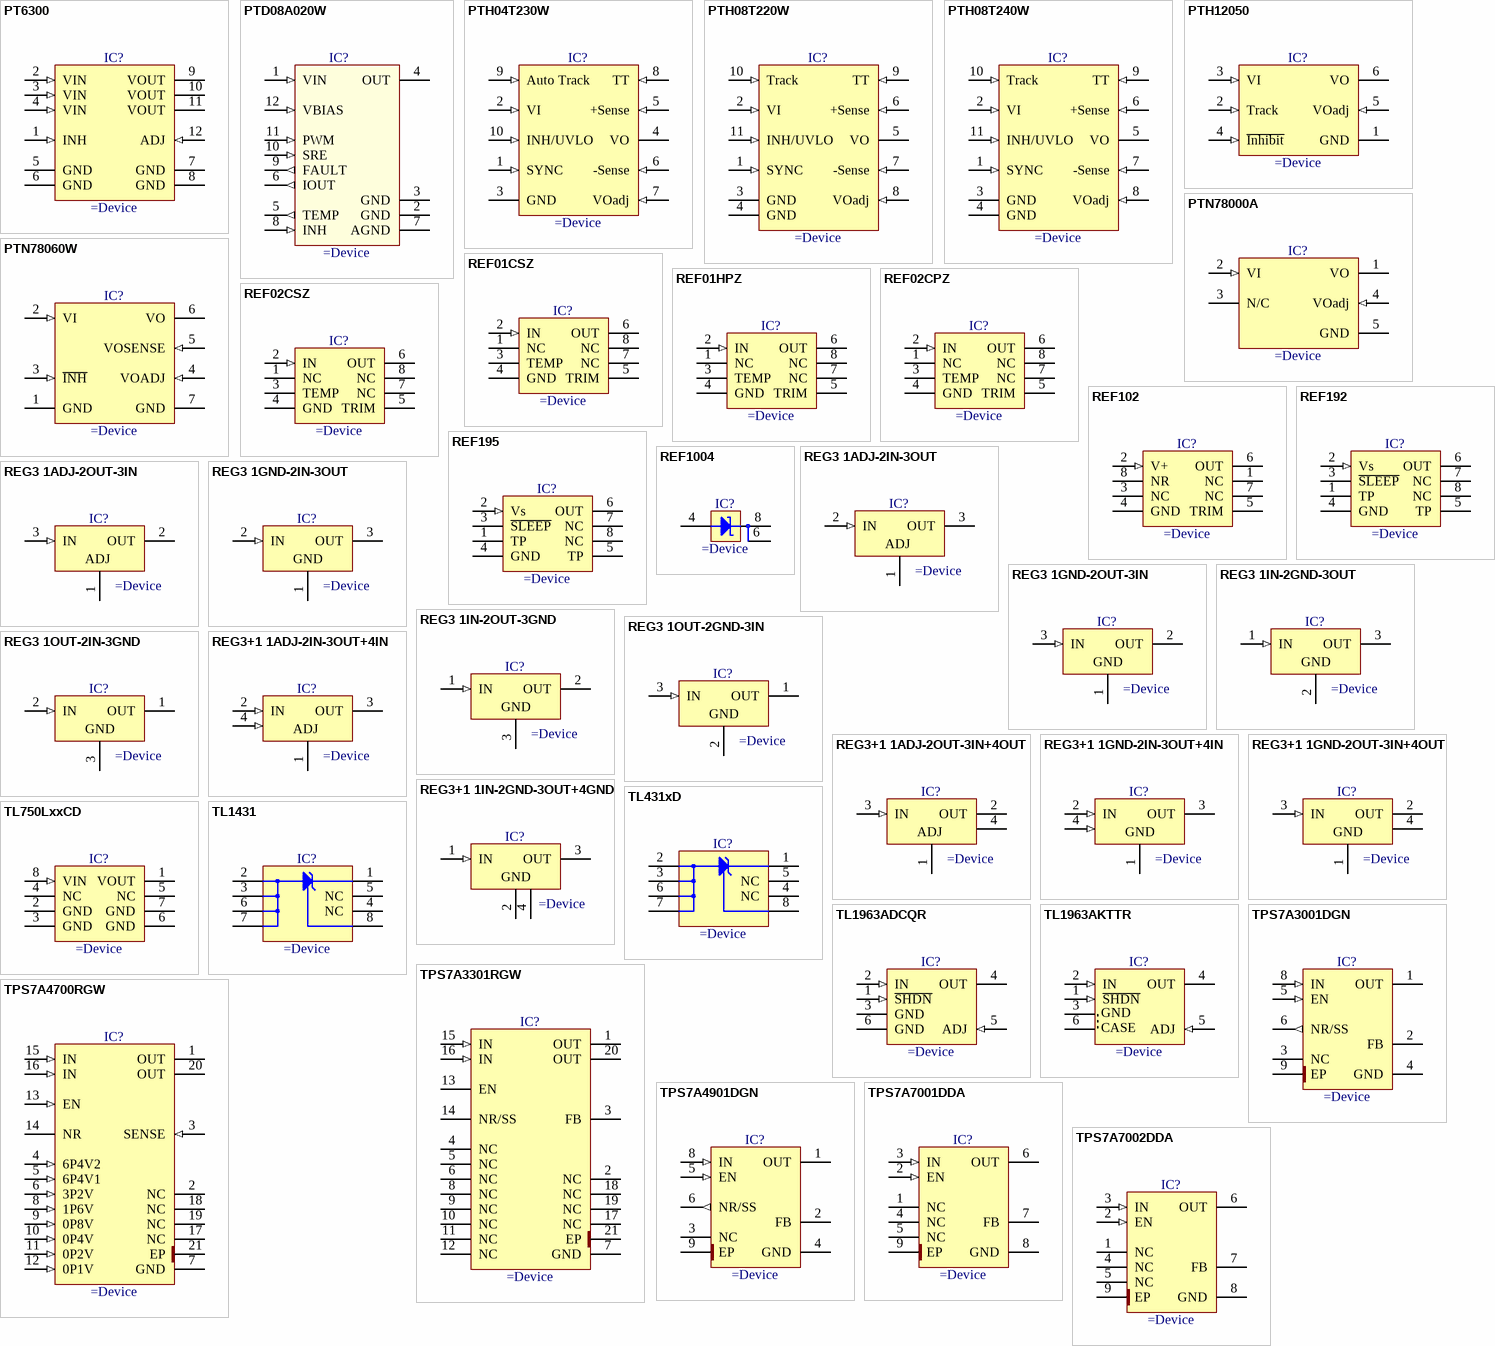
[diagram p4: symbols PT6300 to TPS7A7002DDA]

## PT6300
designator IC?
3A Adjustable Positive Step-down Integrated Switching Regulator
pins: 1 INH (in), 2 VIN (in), 3 VIN (in), 4 VIN (in), 5 GND (power), 6 GND (power), 7 GND (power), 8 GND (power), 9 VOUT (power), 10 VOUT (power), 11 VOUT (power), 12 ADJ (in)

## PTD08A020W
designator IC?
20-A, 4.75-V to 14-V Input, Non-Isolated, Wide-Output, Digital POWERTRAIN Module
pins: 1 VIN (in), 2 GND (power), 3 GND (power), 4 OUT (power), 5 TEMP (out), 6 IOUT (out), 7 AGND (power), 8 INH (in), 9 FAULT (out), 10 SRE (in), 11 PWM (in), 12 VBIAS (in)

## PTH04T230W
designator IC?
6-A, 2.2-V to 5.5-V Input, Non-Isolated, Wide-Output, Adjustable Power Modue With TurboTrans
pins: 1 SYNC (in), 2 VI (in), 3 GND (power), 4 VO (power), 5 +Sense (in), 6 -Sense (in), 7 VOadj (in), 8 TT (in), 9 Auto Track (in), 10 INH/UVLO (in)

## PTH08T220W
designator IC?
16A, 4.5V to 14V Input, Non-Isolated, Wide Output Adjustable Power Module With TurboTrans
pins: 1 SYNC (in), 2 VI (in), 3 GND (power), 4 GND (power), 5 VO (power), 6 +Sense (in), 7 -Sense (in), 8 VOadj (in), 9 TT (in), 10 Track (in), 11 INH/UVLO (in)

## PTH08T240W
designator IC?
10A, 4.5V to 14V Input, Non-Isolated, Wide Output Adjustable Power Module With TurboTrans
pins: 1 SYNC (in), 2 VI (in), 3 GND (power), 4 GND (power), 5 VO (power), 6 +Sense (in), 7 -Sense (in), 8 VOadj (in), 9 TT (in), 10 Track (in), 11 INH/UVLO (in)

## PTH12050
designator IC?
6-A, 12-V Input, Non-Isolated, Wide-Output 1.2V to 5.5V, Adjustable Power Modue
pins: 1 GND (power), 2 Track (in), 3 VI (in), 4 ~{Inhibit} (in), 5 VOadj (in), 6 VO (power)

## PTN78000A
designator IC?
7V To 29V Input, 1.5A,-15V To -3V Output, Adjustable Buck-Boost Switching Regulator
pins: 1 VO (power), 2 VI (in), 3 N/C, 4 VOadj (in), 5 GND (power)

## PTN78060W
designator IC?
3A, Wide-Input, Adjustable Switching Regulator Module
pins: 1 GND (power), 2 VI (in), 3 ~{INH} (in), 4 VOADJ (in), 5 VOSENSE (in), 6 VO (power), 7 GND (power)

## REF01CSZ
designator IC?
Precision Voltage Reference
pins: 1 NC, 2 IN (in), 3 TEMP, 4 GND (power), 5 TRIM, 6 OUT (power), 7 NC, 8 NC

## REF01HPZ
designator IC?
Precision Voltage Reference
pins: 1 NC, 2 IN (in), 3 TEMP, 4 GND (power), 5 TRIM, 6 OUT (power), 7 NC, 8 NC

## REF02CPZ
designator IC?
Precision Voltage Reference/Temperature Transducer
pins: 1 NC, 2 IN (in), 3 TEMP, 4 GND (power), 5 TRIM, 6 OUT (power), 7 NC, 8 NC

## REF02CSZ
designator IC?
Precision Voltage Reference/Temperature Transducer
pins: 1 NC, 2 IN (in), 3 TEMP, 4 GND (power), 5 TRIM, 6 OUT (power), 7 NC, 8 NC

## REF102
designator IC?
Precision Voltage Reference
pins: 1 NC, 2 V+ (in), 3 NC, 4 GND (power), 5 TRIM, 6 OUT (power), 7 NC, 8 NR

## REF192
designator IC?
Precision Micropower, Low Dropout Voltage Reference
pins: 1 TP, 2 Vs (in), 3 ~{SLEEP}, 4 GND (power), 5 TP, 6 OUT (power), 7 NC, 8 NC

## REF195
designator IC?
Precision Micropower, Low Dropout Voltage Reference
pins: 1 TP, 2 Vs (in), 3 ~{SLEEP}, 4 GND (power), 5 TP, 6 OUT (power), 7 NC, 8 NC

## REF1004
designator IC?
Micropower Voltage REference
pins: 4 A, 6 C, 8 C

## REG3 1ADJ-2IN-3OUT
designator IC?
3-Terminal Regulator 1=Adj 2=IN 3=OUT
pins: 1 ADJ (power), 2 IN (in), 3 OUT (power)

## REG3 1ADJ-2OUT-3IN
designator IC?
3-Terminal Regulator 1=Adj 2=OUT 3=IN
pins: 1 ADJ (power), 2 OUT (power), 3 IN (in)

## REG3 1GND-2IN-3OUT
designator IC?
3-Terminal Regulator 1=GND 2=IN 3=OUT
pins: 1 GND (power), 2 IN (in), 3 OUT (power)

## REG3 1GND-2OUT-3IN
designator IC?
3-Terminal Regulator 1=GND 2=OUT 3=IN
pins: 1 GND (power), 2 OUT (power), 3 IN (in)

## REG3 1IN-2GND-3OUT
designator IC?
3-Terminal Regulator 1=IN 2=GND 3=OUT
pins: 1 IN (in), 2 GND (power), 3 OUT (power)

## REG3 1IN-2OUT-3GND
designator IC?
3-Terminal Regulator 1=IN 2=OUT 3=GND
pins: 1 IN (in), 2 OUT (power), 3 GND (power)

## REG3 1OUT-2GND-3IN
designator IC?
3-Terminal Regulator 1=OUT 2=GND 3=IN
pins: 1 OUT (power), 2 GND (power), 3 IN (in)

## REG3 1OUT-2IN-3GND
designator IC?
3-Terminal Regulator 1=OUT 2=IN 3=GND
pins: 1 OUT (power), 2 IN (in), 3 GND (power)

## REG3+1 1ADJ-2IN-3OUT+4IN
designator IC?
3-Terminal Regulator 1=Adj 2=IN 3=OUT 4=IN
pins: 1 ADJ (power), 2 IN (in), 3 OUT (power), 4 IN (in)

## REG3+1 1ADJ-2OUT-3IN+4OUT
designator IC?
3-Terminal Regulator 1=Adj 2=OUT 3=IN 4=OUT
pins: 1 ADJ (power), 2 OUT (power), 3 IN (in), 4 OUT (power)

## REG3+1 1GND-2IN-3OUT+4IN
designator IC?
3-Terminal Regulator 1=GND 2=IN 3=OUT 4=IN
pins: 1 GND (power), 2 IN (in), 3 OUT (power), 4 IN (in)

## REG3+1 1GND-2OUT-3IN+4OUT
designator IC?
3-Terminal Regulator 1=GND 2=OUT 3=IN 4=OUT
pins: 1 GND (power), 2 OUT (power), 3 IN (in), 4 OUT (power)

## REG3+1 1IN-2GND-3OUT+4GND
designator IC?
3-Terminal Regulator 1=IN 2=GND 3=OUT 4=GND
pins: 1 IN (in), 2 GND (power), 3 OUT (power), 4 GND (power)

## TL431xD
designator IC?
Precision Programmable Reference
pins: 1 C, 2 A, 3 A, 4 NC, 5 NC, 6 A, 7 A, 8 REF

## TL750LxxCD
designator IC?
Low-Dropout Voltage Regulators
pins: 1 VOUT (power), 2 GND (power), 3 GND (power), 4 NC, 5 NC, 6 GND (power), 7 GND (power), 8 VIN (in)

## TL1431
designator IC?
Precision Programmable Reference
pins: 1 C, 2 A, 3 A, 4 NC, 5 NC, 6 A, 7 A, 8 REF

## TL1963ADCQR
designator IC?
1.2V to 20V, 1.5A, Fast Transient Response, Low Noise, LDO Adjustable Regulator
pins: 1 ~{SHDN} (in), 2 IN (in), 3 GND (power), 4 OUT (power), 5 ADJ (in), 6 GND (power)

## TL1963AKTTR
designator IC?
1.21V to 20V, 1.5A Low-Noise Fast-Transient-Response Low-Dropout Adjustable Regulator
pins: 1 ~{SHDN} (in), 2 IN (in), 3 GND (power), 4 OUT (power), 5 ADJ (in), 6 CASE (power)

## TPS7A3001DGN
designator IC?
-36V, -200mA, Ultralow-Noise, Negative Linear Regulator
pins: 1 OUT (power), 2 FB, 3 NC, 4 GND (power), 5 EN (in), 6 NR/SS (out), 8 IN (in), 9 EP (power)

## TPS7A3301RGW
designator IC?
-1.18V to -33V -1A, Ultra-Low Noise, High PSRR, Low-Dropout Linear Regulator
pins: 1 OUT (power), 2 NC, 3 FB, 4 NC, 5 NC, 6 NC, 7 GND (power), 8 NC, 9 NC, 10 NC, 11 NC, 12 NC, 13 EN, 14 NR/SS, 15 IN (in), 16 IN (in), 17 NC, 18 NC, 19 NC, 20 OUT (power), 21 EP (power)

## TPS7A4700RGW
designator IC?
Low Noise (3uVrms), 1A, High Voltage Low-Dropout Linear Regulator
pins: 1 OUT (power), 2 NC, 3 SENSE (in), 4 6P4V2 (in), 5 6P4V1 (in), 6 3P2V (in), 7 GND (power), 8 1P6V (in), 9 0P8V (in), 10 0P4V (in), 11 0P2V (in), 12 0P1V (in), 13 EN (in), 14 NR, 15 IN (in), 16 IN (in), 17 NC, 18 NC, 19 NC, 20 OUT (power), 21 EP (power)

## TPS7A4901DGN
designator IC?
+36V, +150mA, Ultralow-Noise, Positive Linear Regulator
pins: 1 OUT (power), 2 FB, 3 NC, 4 GND (power), 5 EN (in), 6 NR/SS (out), 8 IN (in), 9 EP (power)

## TPS7A7001DDA
designator IC?
0.9V To 5V, 2A, Very Low Input, Very Low Dropout, Adjustable Regulator With Enable
pins: 1 NC, 2 EN (in), 3 IN (in), 4 NC, 5 NC, 6 OUT (power), 7 FB, 8 GND (power), 9 EP (power)

## TPS7A7002DDA
designator IC?
0.9V To 5V, 3A, Very Low Input, Very Low Dropout, Adjustable Regulator With Enable
pins: 1 NC, 2 EN (in), 3 IN (in), 4 NC, 5 NC, 6 OUT (power), 7 FB, 8 GND (power), 9 EP (power)

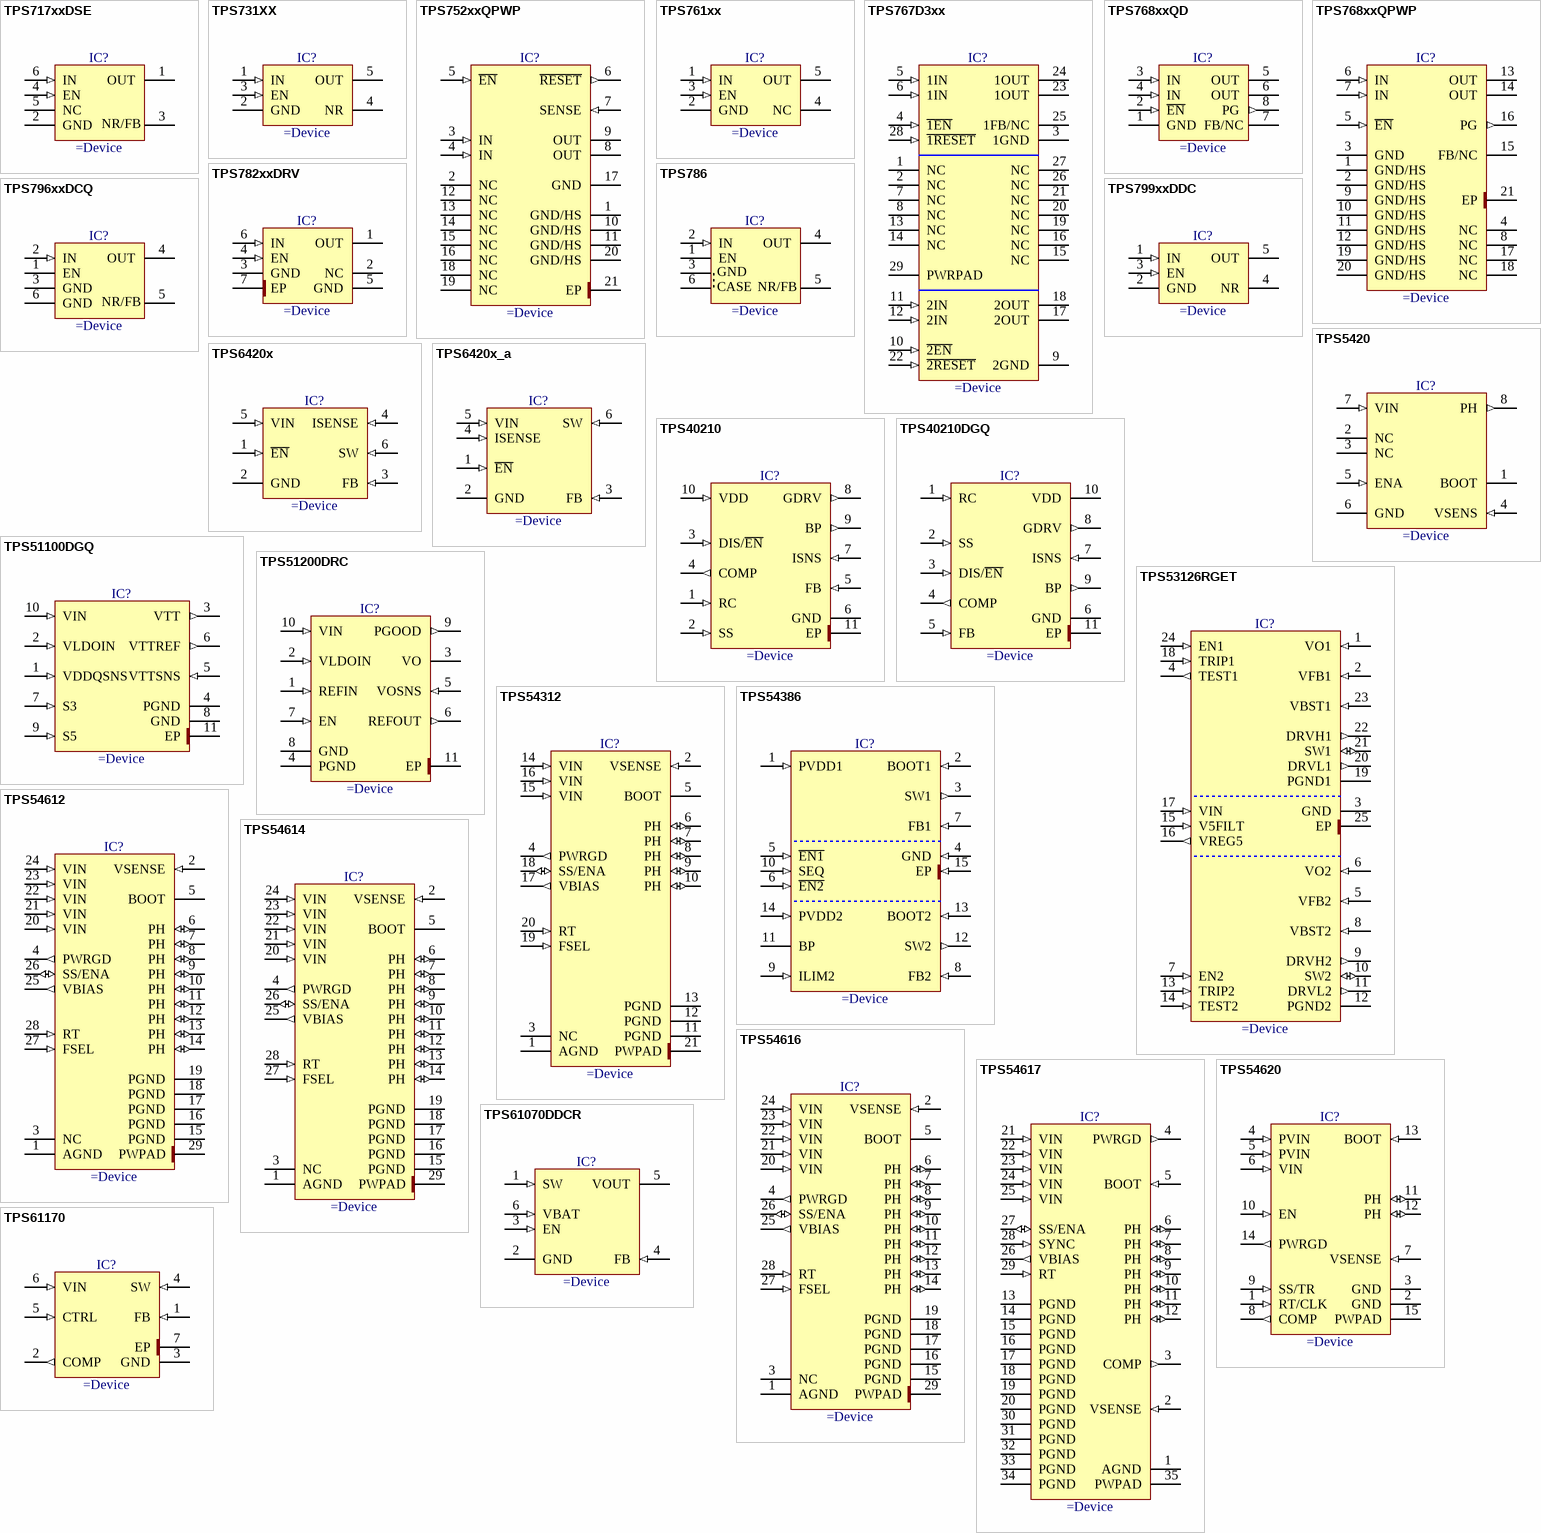
[diagram p5: symbols TPS717xxDSE to TPS61170]

## TPS717xxDSE
designator IC?
Low-Noise, High-PSRR, Low-Dropout 150mA Linear Regulator
pins: 1 OUT (power), 2 GND (power), 3 NR/FB, 4 EN (in), 5 NC, 6 IN (in)

## TPS731XX
designator IC?
150mA, Cap free, Low Dropout Regulator With Reverse Current Protection
pins: 1 IN (in), 2 GND (power), 3 EN (in), 4 NR, 5 OUT (power)

## TPS752xxQPWP
designator IC?
Single Output, Fast Transient Response 2A Low-Dropout Voltage Regulator
pins: 1 GND/HS (power), 2 NC, 3 IN (in), 4 IN (in), 5 ~{EN} (in), 6 ~{RESET} (out), 7 SENSE (in), 8 OUT (power), 9 OUT (power), 10 GND/HS (power), 11 GND/HS (power), 12 NC, 13 NC, 14 NC, 15 NC, 16 NC, 17 GND (power), 18 NC, 19 NC, 20 GND/HS (power), 21 EP (power)

## TPS761xx
designator IC?
5V 100mA Low-Power Low-Dropout Linear Regulator
pins: 1 IN (in), 2 GND (power), 3 EN (in), 4 NC, 5 OUT (power)

## TPS767D3xx
designator IC?
Dual-Output Low-Dropout Voltage Regulator
pins: 1 NC, 2 NC, 3 1GND (power), 4 ~{1EN} (in), 5 1IN (in), 6 1IN (in), 7 NC, 8 NC, 9 2GND (power), 10 ~{2EN} (in), 11 2IN (in), 12 2IN (in), 13 NC, 14 NC, 15 NC, 16 NC, 17 2OUT (power), 18 2OUT (power), 19 NC, 20 NC, 21 NC, 22 ~{2RESET} (in), 23 1OUT (power), 24 1OUT (power), 25 1FB/NC, 26 NC, 27 NC, 28 ~{1RESET} (in), 29 PWRPAD

## TPS768xxQD
designator IC?
1A Low-Dropout Voltage Regulator, Fast Transient Reponse
pins: 1 GND (power), 2 ~{EN} (in), 3 IN (in), 4 IN (in), 5 OUT (power), 6 OUT (power), 7 FB/NC, 8 PG (out)

## TPS768xxQPWP
designator IC?
1A Low-Dropout Voltage Regulator, Fast Transient Reponse
pins: 1 GND/HS (power), 2 GND/HS (power), 3 GND (power), 4 NC, 5 ~{EN} (in), 6 IN (in), 7 IN (in), 8 NC, 9 GND/HS (power), 10 GND/HS (power), 11 GND/HS (power), 12 GND/HS (power), 13 OUT (power), 14 OUT (power), 15 FB/NC, 16 PG (out), 17 NC, 18 NC, 19 GND/HS (power), 20 GND/HS (power), 21 EP (power)

## TPS782xxDRV
designator IC?
1.8V, 150mA, Ultra-Low Quiescent Current Low-Dropout Linear Regulator
pins: 1 OUT (power), 2 NC, 3 GND (power), 4 EN (in), 5 GND (power), 6 IN (in), 7 EP (power)

## TPS786
designator IC?
Ultralow-Noise, High-PSRR, Fast, RF, 1.5A Low-Dropout Linear Regulator
pins: 1 EN (power), 2 IN (in), 3 GND (power), 4 OUT (power), 5 NR/FB, 6 CASE (power)

## TPS796xxDCQ
designator IC?
Ultralow-Noise, High-PSRR, Fast, RF, 1A Low-Dropout Linear Regulator
pins: 1 EN (power), 2 IN (in), 3 GND (power), 4 OUT (power), 5 NR/FB, 6 GND (power)

## TPS799xxDDC
designator IC?
200mA, Low Quiescent Current, Ultra-Low Noise, High PSRR Low Dropout Linear Regulator
pins: 1 IN (in), 2 GND (power), 3 EN (in), 4 NR, 5 OUT (power)

## TPS5420
designator IC?
2A, Wide Input Range, Step-Down SWIFT Converter
pins: 1 BOOT, 2 NC, 3 NC, 4 VSENS (in), 5 ENA (in), 6 GND (power), 7 VIN (in), 8 PH (out)

## TPS6420x
designator IC?
Step-Down Controller
pins: 1 ~{EN} (in), 2 GND (power), 3 FB (in), 4 ISENSE (in), 5 VIN (in), 6 SW (in)

## TPS6420x_a
designator IC?
Step-Down Controller
pins: 1 ~{EN} (in), 2 GND (power), 3 FB (in), 4 ISENSE (in), 5 VIN (in), 6 SW (in)

## TPS40210
designator IC?
Wide-Input Voltage (4.5V to 52V) Input Current Mode Boost Controller
pins: 1 RC (in), 2 SS (in), 3 DIS/~{EN} (in), 4 COMP (out), 5 FB (in), 6 GND (power), 7 ISNS (in), 8 GDRV (out), 9 BP (out), 10 VDD (in), 11 EP (power)

## TPS40210DGQ
designator IC?
4.5V To 52v Input Current Mode Boost Controller
pins: 1 RC (in), 2 SS (in), 3 DIS/~{EN} (in), 4 COMP (out), 5 FB (in), 6 GND (power), 7 ISNS (in), 8 GDRV (out), 9 BP (out), 10 VDD (power), 11 EP (power)

## TPS51100DGQ
designator IC?
3A Sink/Source DDR Termination Regulator
pins: 1 VDDQSNS (in), 2 VLDOIN (in), 3 VTT (out), 4 PGND (power), 5 VTTSNS (in), 6 VTTREF (out), 7 S3 (in), 8 GND (power), 9 S5 (in), 10 VIN (in), 11 EP (power)

## TPS51200DRC
designator IC?
Sink/Source DDR Termination Regulator
pins: 1 REFIN (in), 2 VLDOIN (in), 3 VO (power), 4 PGND (power), 5 VOSNS (in), 6 REFOUT (out), 7 EN (in), 8 GND (power), 9 PGOOD (out), 10 VIN (in), 11 EP (power)

## TPS53126RGET
designator IC?
Dual Synchronous Step-Down Controller For Low Voltage Power Rails
pins: 1 VO1 (in), 2 VFB1 (in), 3 GND (power), 4 TEST1 (out), 5 VFB2 (in), 6 VO2 (in), 7 EN2 (in), 8 VBST2 (in), 9 DRVH2 (out), 10 SW2 (io), 11 DRVL2 (out), 12 PGND2 (power), 13 TRIP2 (in), 14 TEST2 (in), 15 V5FILT (in), 16 VREG5 (out), 17 VIN (in), 18 TRIP1 (in), 19 PGND1 (power), 20 DRVL1 (out), 21 SW1 (io), 22 DRVH1 (out), 23 VBST1 (in), 24 EN1 (in), 25 EP (power)

## TPS54312
designator IC?
3V to 6V Input, 3A Output Synchronous-Buck PWM Switcher With Integrated FETs (SWIFT)
pins: 1 AGND (power), 2 VSENSE (in), 3 NC, 4 PWRGD (out), 5 BOOT, 6 PH (io), 7 PH (io), 8 PH (io), 9 PH (io), 10 PH (io), 11 PGND (power), 12 PGND (power), 13 PGND (power), 14 VIN (in), 15 VIN (in), 16 VIN (in), 17 VBIAS (out), 18 SS/ENA (io), 19 FSEL (in), 20 RT (in), 21 PWPAD (power)

## TPS54386
designator IC?
4.5V to 28V Input, Dual 3A Outputs, 600kHz Step-Down Converter with Internal Compensation
pins: 1 PVDD1 (in), 2 BOOT1 (in), 3 SW1 (out), 4 GND (in), 5 ~{EN1} (in), 6 ~{EN2} (in), 7 FB1 (in), 8 FB2 (in), 9 ILIM2 (in), 10 SEQ (in), 11 BP, 12 SW2 (out), 13 BOOT2 (in), 14 PVDD2 (in), 15 EP (in)

## TPS54612
designator IC?
4V to 6V, 6A Synchronous Step Down SWIFT Converter with 1.2V Output
pins: 1 AGND (power), 2 VSENSE (in), 3 NC, 4 PWRGD (out), 5 BOOT, 6 PH (io), 7 PH (io), 8 PH (io), 9 PH (io), 10 PH (io), 11 PH (io), 12 PH (io), 13 PH (io), 14 PH (io), 15 PGND (power), 16 PGND (power), 17 PGND (power), 18 PGND (power), 19 PGND (power), 20 VIN (in), 21 VIN (in), 22 VIN (in), 23 VIN (in), 24 VIN (in), 25 VBIAS (out), 26 SS/ENA (io), 27 FSEL (in), 28 RT (in), 29 PWPAD (power)

## TPS54614
designator IC?
3V to 6V Input, 1.8V 6A Output, Synchronous Buck PWM Switcher With Integrated FETs (SWIFT)
pins: 1 AGND (power), 2 VSENSE (in), 3 NC, 4 PWRGD (out), 5 BOOT, 6 PH (io), 7 PH (io), 8 PH (io), 9 PH (io), 10 PH (io), 11 PH (io), 12 PH (io), 13 PH (io), 14 PH (io), 15 PGND (power), 16 PGND (power), 17 PGND (power), 18 PGND (power), 19 PGND (power), 20 VIN (in), 21 VIN (in), 22 VIN (in), 23 VIN (in), 24 VIN (in), 25 VBIAS (out), 26 SS/ENA (io), 27 FSEL (in), 28 RT (in), 29 PWPAD (power)

## TPS54616
designator IC?
4V to 6V, 6A Synchronous Step Down SWIFT Converter with 3.3V Output
pins: 1 AGND (power), 2 VSENSE (in), 3 NC, 4 PWRGD (out), 5 BOOT, 6 PH (io), 7 PH (io), 8 PH (io), 9 PH (io), 10 PH (io), 11 PH (io), 12 PH (io), 13 PH (io), 14 PH (io), 15 PGND (power), 16 PGND (power), 17 PGND (power), 18 PGND (power), 19 PGND (power), 20 VIN (in), 21 VIN (in), 22 VIN (in), 23 VIN (in), 24 VIN (in), 25 VBIAS (out), 26 SS/ENA (io), 27 FSEL (in), 28 RT (in), 29 PWPAD (power)

## TPS54617
designator IC?
3V to 6V, 6A, 1.6MHz Step Down SWIFT Converter
pins: 1 AGND (power), 2 VSENSE (in), 3 COMP (out), 4 PWRGD (out), 5 BOOT (in), 6 PH (io), 7 PH (io), 8 PH (io), 9 PH (io), 10 PH (io), 11 PH (io), 12 PH (io), 13 PGND (power), 14 PGND (power), 15 PGND (power), 16 PGND (power), 17 PGND (power), 18 PGND (power), 19 PGND (power), 20 PGND (power), 21 VIN (in), 22 VIN (in), 23 VIN (in), 24 VIN (in), 25 VIN (in), 26 VBIAS (out), 27 SS/ENA (io), 28 SYNC (in), 29 RT (in), 30 PGND (power), 31 PGND (power), 32 PGND (power), 33 PGND (power), 34 PGND (power), 35 PWPAD (power)

## TPS54620
designator IC?
17V Input, 6A Output, Synchronous Step Down Switcher
pins: 1 RT/CLK (in), 2 GND (power), 3 GND (power), 4 PVIN (in), 5 PVIN (in), 6 VIN (in), 7 VSENSE (in), 8 COMP (out), 9 SS/TR (in), 10 EN (in), 11 PH (io), 12 PH (io), 13 BOOT (in), 14 PWRGD (out), 15 PWPAD (power)

## TPS61070DDCR
designator IC?
90% Efficient Synchronous Boost Converter With 600mA Switch
pins: 1 SW (in), 2 GND (power), 3 EN (in), 4 FB (in), 5 VOUT (power), 6 VBAT (in)

## TPS61170
designator IC?
3V to 18V Input, 3V to 38V Output, 1.2A High Voltage Boost Converter
pins: 1 FB (in), 2 COMP (out), 3 GND (power), 4 SW (in), 5 CTRL (in), 6 VIN (in), 7 EP (power)

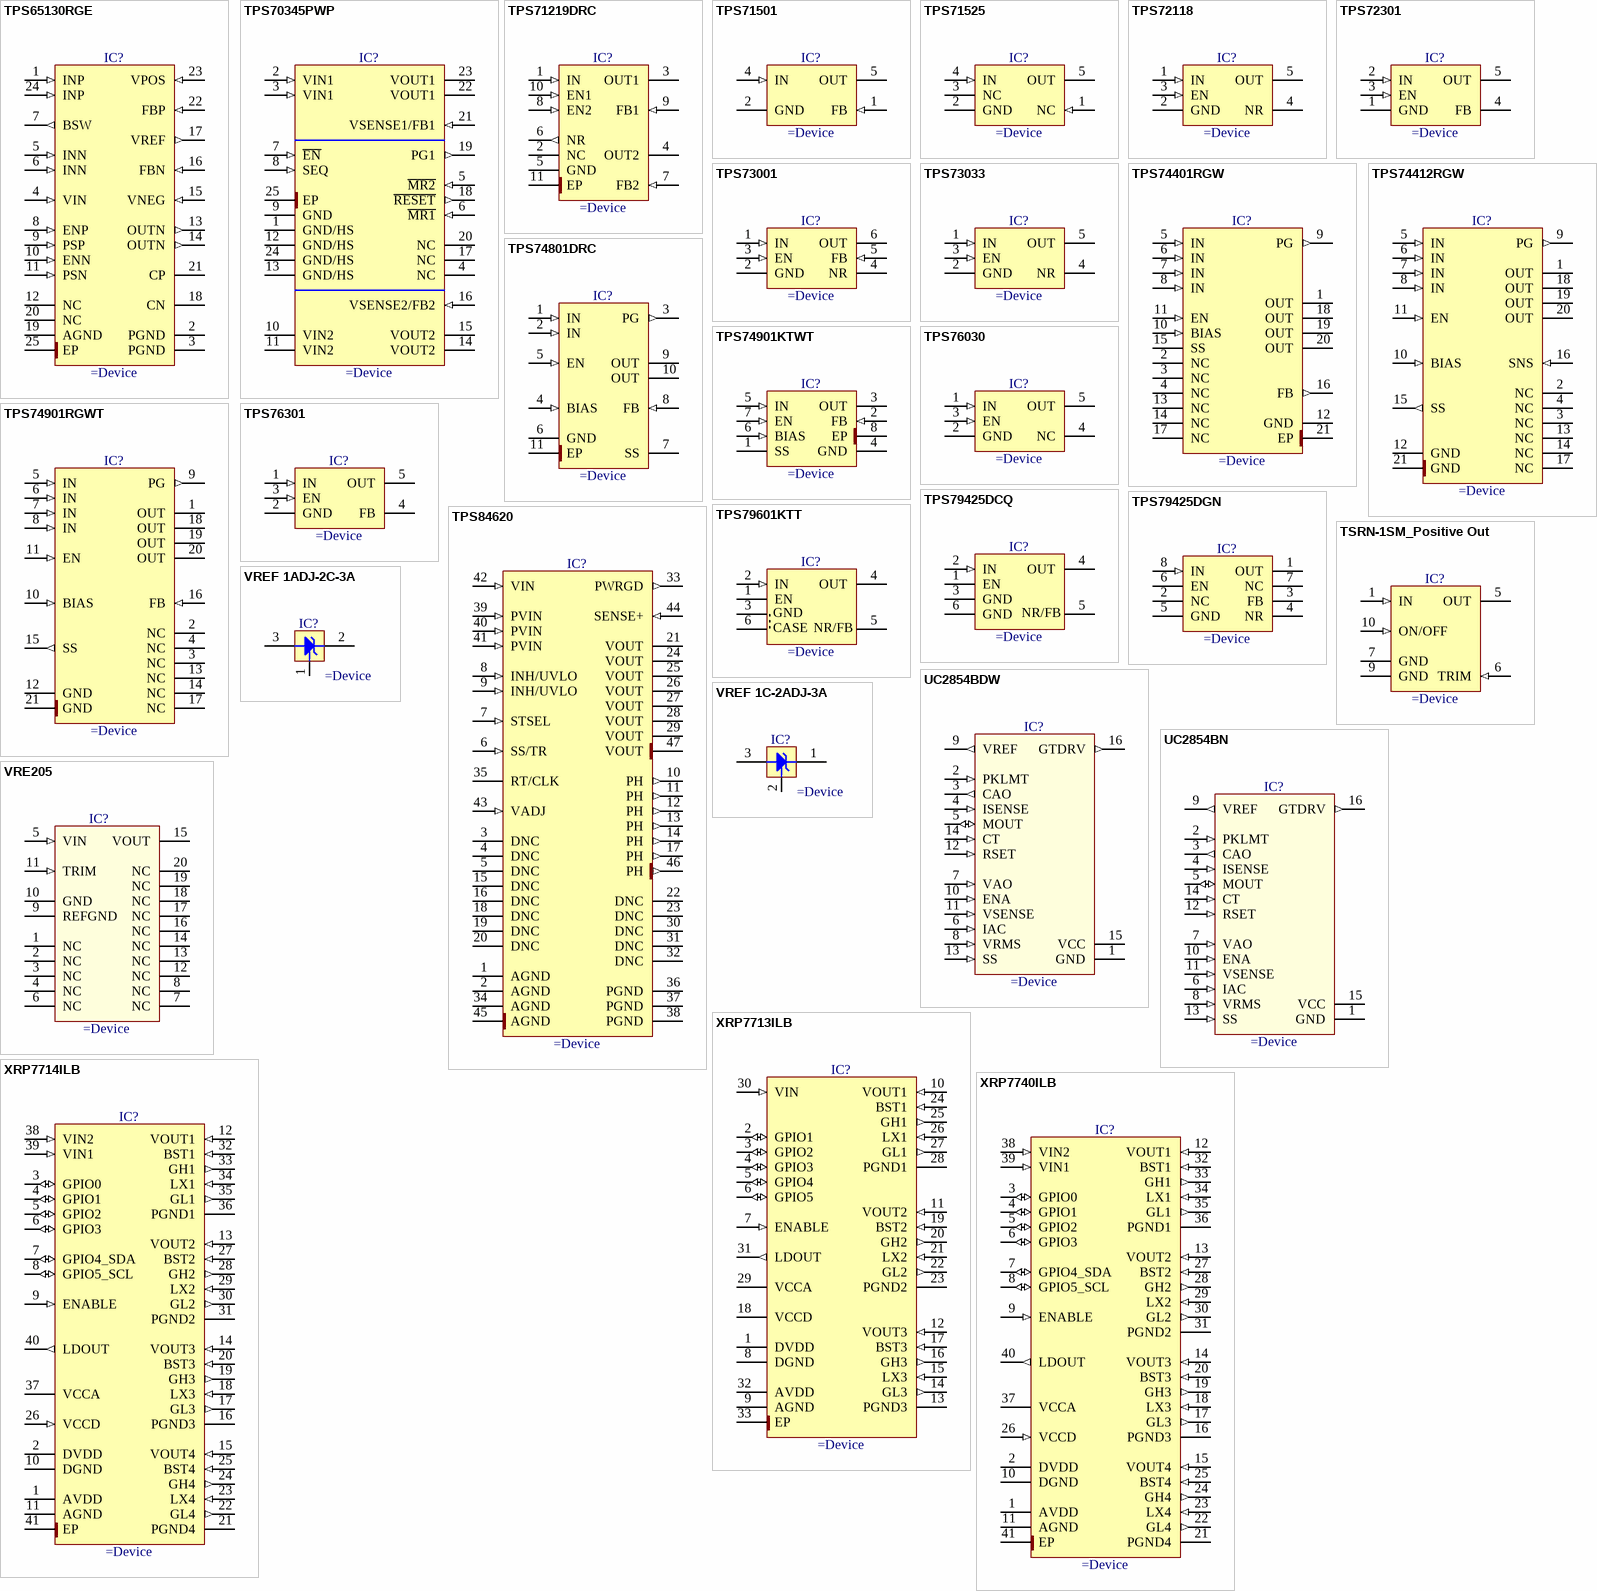
[diagram p6: symbols TPS65130RGE to XRP7740ILB]

## TPS65130RGE
designator IC?
700mA, Dual Positive (+15V) and Negative (-15V) Outputs DC-DC Converter
pins: 1 INP (in), 2 PGND (power), 3 PGND (power), 4 VIN (in), 5 INN (in), 6 INN (in), 7 BSW (out), 8 ENP (in), 9 PSP (in), 10 ENN (in), 11 PSN (in), 12 NC, 13 OUTN (out), 14 OUTN (out), 15 VNEG (in), 16 FBN (in), 17 VREF (out), 18 CN, 19 AGND (power), 20 NC, 21 CP, 22 FBP (in), 23 VPOS (in), 24 INP (in), 25 EP (power)

## TPS70345PWP
designator IC?
Dual-Output Low-Dropout Voltage Regulator With Integrated SVS For Split Voltage System
pins: 1 GND/HS (power), 2 VIN1 (in), 3 VIN1 (in), 4 NC, 5 ~{MR2} (in), 6 ~{MR1} (in), 7 ~{EN} (in), 8 SEQ (in), 9 GND (power), 10 VIN2 (power), 11 VIN2 (power), 12 GND/HS (power), 13 GND/HS (power), 14 VOUT2 (power), 15 VOUT2 (power), 16 VSENSE2/FB2 (in), 17 NC, 18 ~{RESET} (out), 19 PG1 (out), 20 NC, 21 VSENSE1/FB1 (in), 22 VOUT1 (power), 23 VOUT1 (power), 24 GND/HS (power), 25 EP (power)